# Altium integrated library relay.IntLib: 425 symbols (part 1 of 4)
Pins are listed as number, name and electrical type; pins without a type are passive.

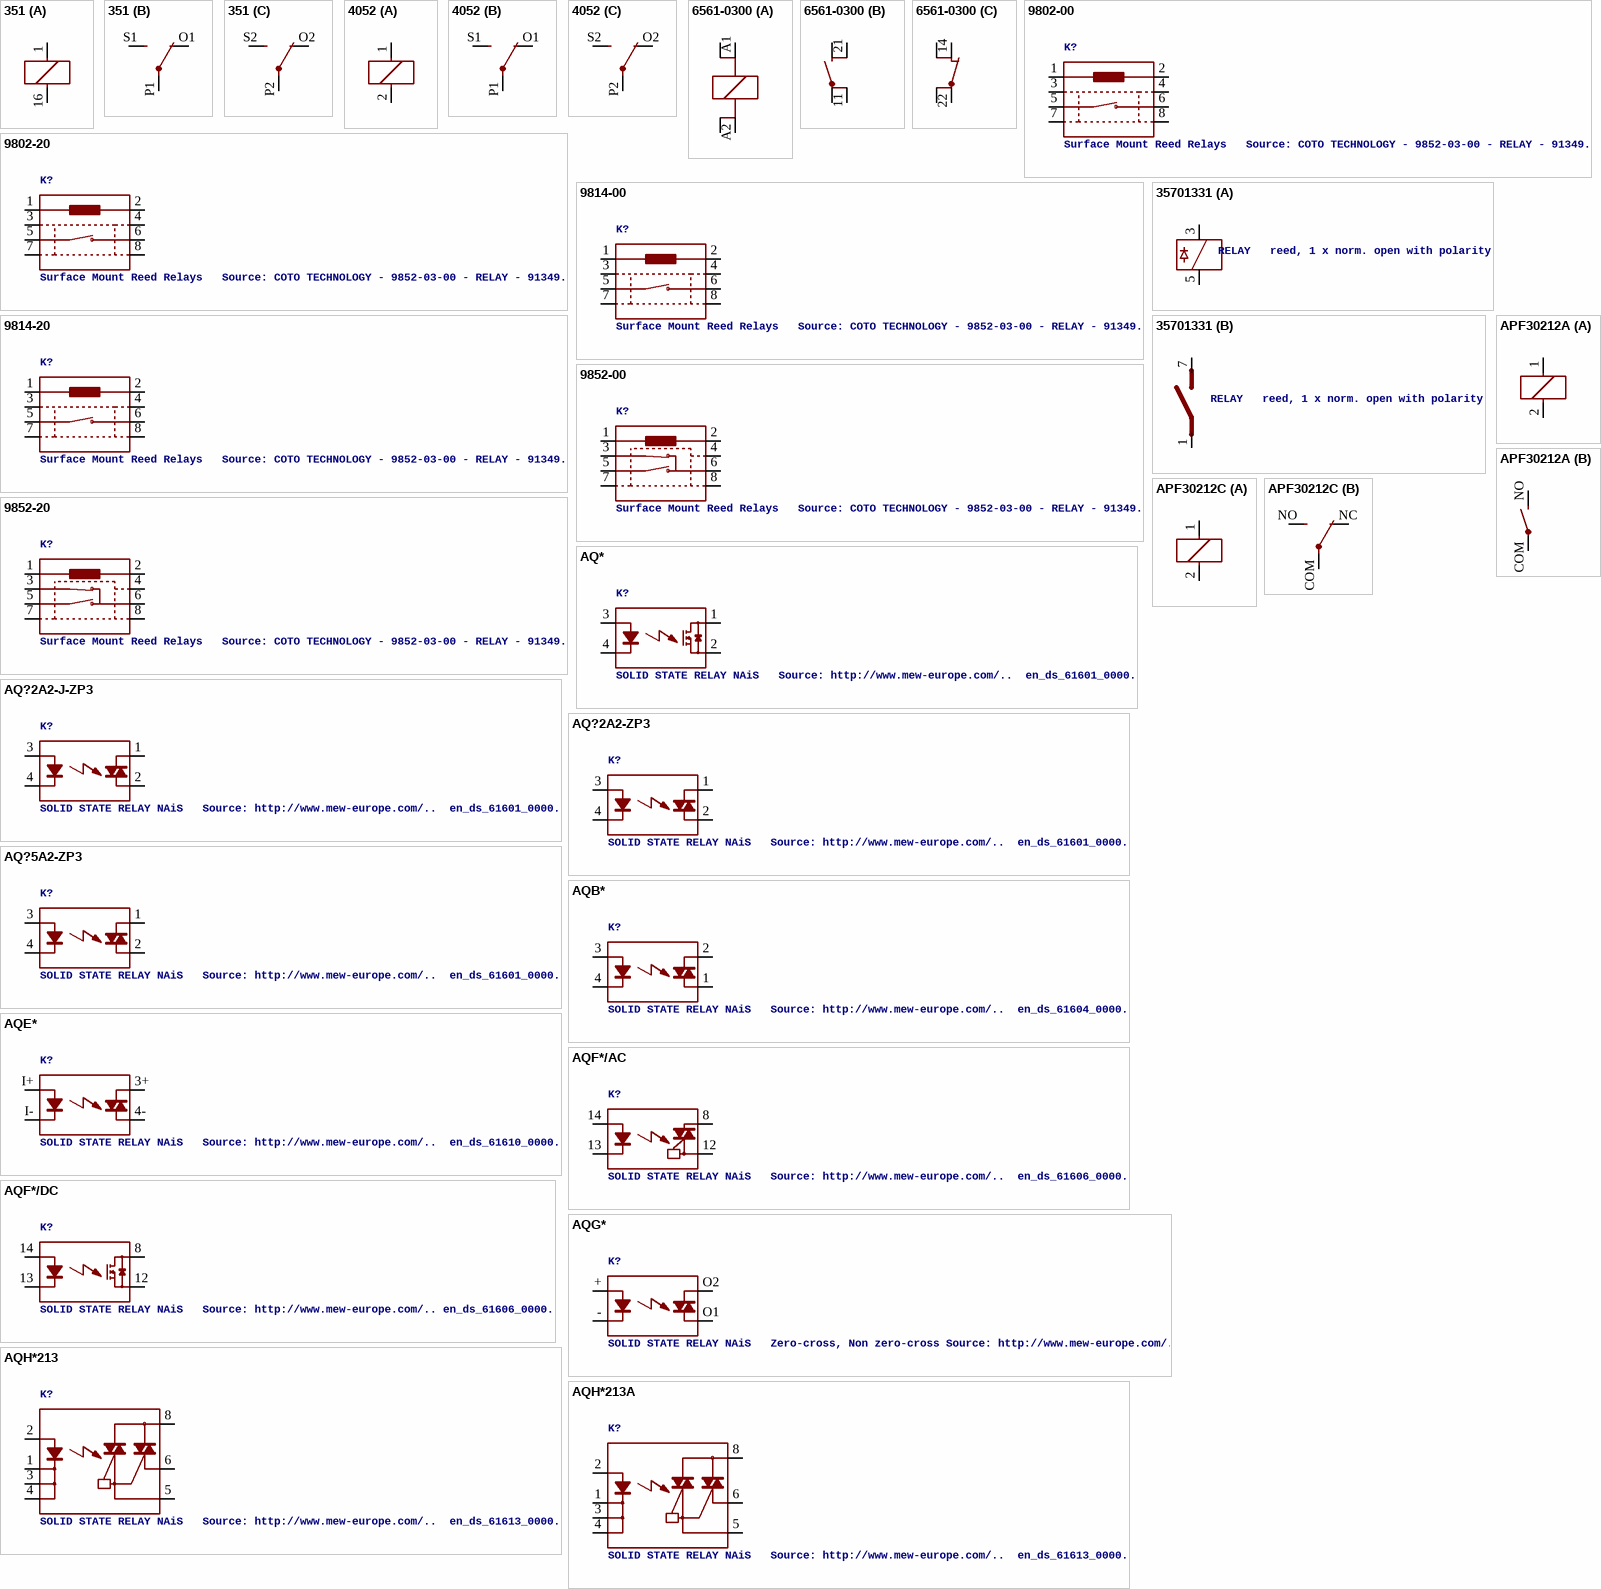
[diagram p0: symbols 351 to AQH*213A]

## 351
designator K?, comment RELAY   2 x switch, Omron  (value not drawn)
OC_FARNELL: unknown; OC_NEWARK: unknown
footprint 351
part A pins: 1, 16 2
part B pins: O1 O, P1 P, S1 S
part C pins: O2 O, P2 P, S2 S

## 4052
designator K?, comment RELAY   2 x switch, Finder  (value not drawn)
OC_FARNELL: unknown; OC_NEWARK: unknown
footprint F4052
part A pins: 1, 2
part B pins: O1 O, P1 P, S1 S
part C pins: O2 O, P2 P, S2 S

## 6561-0300
designator K?, comment 20 / 30 A-Leistungsrelais   Source: http://www.finder.de/comuni/pdf/S65DE.pdf  (value not drawn)
OC_FARNELL: unknown; OC_NEWARK: unknown
footprint 6561-0300
part A pins: A1 1_, A1_ 1, A2 2_, A2_ 2
part B pins: 11 P_, 11_ P, 21 S_, 21_ S
part C pins: 14 O, 14_ O_, 22 P, 22_ P_

## 9802-00
designator K?, comment Surface Mount Reed Relays   Source: COTO TECHNOLOGY - 9852-03-00 - RELAY - 91349.pdf
OC_FARNELL: unknown; OC_NEWARK: unknown; MF: COTO TECHNOLOGY; MPN: 9802-05-00; OC_FARNELL: 1081689; OC_NEWARK: 16F3689
footprint 9802-00
pins: 1, 2, 3, 4, 5, 6, 7, 8

## 9802-20
designator K?, comment Surface Mount Reed Relays   Source: COTO TECHNOLOGY - 9852-03-00 - RELAY - 91349.pdf
OC_FARNELL: unknown; OC_NEWARK: unknown; MF: COTO TECHNOLOGY; MPN: 9802-05-20; OC_FARNELL: 1081633; OC_NEWARK: 92F3367
footprint 9802-20
pins: 1, 2, 3, 4, 5, 6, 7, 8

## 9814-00
designator K?, comment Surface Mount Reed Relays   Source: COTO TECHNOLOGY - 9852-03-00 - RELAY - 91349.pdf
MF: COTO TECHNOLOGY; MPN: 9814-03-00; OC_FARNELL: unknown; OC_NEWARK: 29H2537; MPN: 9814-05-00; OC_FARNELL: 1081691; OC_NEWARK: 29H2538
footprint 9814-00
pins: 1, 2, 3, 4, 5, 6, 7, 8

## 9814-20
designator K?, comment Surface Mount Reed Relays   Source: COTO TECHNOLOGY - 9852-03-00 - RELAY - 91349.pdf
MF: COTO TECHNOLOGY; MPN: 9814-03-20; OC_FARNELL: unknown; OC_NEWARK: 83H2026; MPN: 9814-05-20; OC_NEWARK: 83H2028
footprint 9814-20
pins: 1, 2, 3, 4, 5, 6, 7, 8

## 9852-00
designator K?, comment Surface Mount Reed Relays   Source: COTO TECHNOLOGY - 9852-03-00 - RELAY - 91349.pdf
MF: COTO TECHNOLOGY; MPN: 9852-03-00; OC_FARNELL: 1081692; OC_NEWARK: 29H2540; MPN: 9852-05-00; OC_FARNELL: 1081693; OC_NEWARK: 84C8955
footprint 9852-00
pins: 1, 2, 3, 4, 5, 6, 7, 8

## 9852-20
designator K?, comment Surface Mount Reed Relays   Source: COTO TECHNOLOGY - 9852-03-00 - RELAY - 91349.pdf
MF: COTO TECHNOLOGY; MPN: 9852-03-20; OC_FARNELL: unknown; OC_NEWARK: 83H2030; MPN: 9852-05-20; OC_FARNELL: 1081642; OC_NEWARK: 46M4523
footprint 9852-20
pins: 1, 2, 3, 4, 5, 6, 7, 8

## 35701331
designator K?, comment RELAY   reed, 1 x norm. open with polarity
OC_FARNELL: unknown; OC_NEWARK: unknown
footprint REED
part A pins: 3, 5
part B pins: 1 P, 7 S

## APF30212A
designator K?, comment Compliant with European standards 1a/1c 6A Slim power relays   Source: Data sheet  (value not drawn)
OC_FARNELL: unknown
footprint APF30212A
part A pins: 1, 2
part B pins: COM P, NO S

## APF30212C
designator K?, comment Compliant with European standards 1a/1c 6A Slim power relays   Source: Data sheet  (value not drawn)
OC_FARNELL: unknown
footprint APF30212C
part A pins: 1, 2
part B pins: COM P, NC O, NO S

## AQ*
designator K?, comment SOLID STATE RELAY NAiS   Source: http://www.mew-europe.com/..  en_ds_61601_0000.pdf
MPN: AQ1AD2-3/28VDC; MPN: AQ2AD1-3/28VDC; MF: AROMAT/ MATSUSHITA; OC_FARNELL: unknown; OC_NEWARK: 10C4052; OC_NEWARK: 13P1229
footprint AQ1
pins: 1 DS1, 2 DS2, 3 A, 4 K

## AQ?2A2-J-ZP3
designator K?, comment SOLID STATE RELAY NAiS   Source: http://www.mew-europe.com/..  en_ds_61601_0000.pdf
MPN: AQ2A2-ZP3/28VDC; OC_FARNELL: 1163552; OC_NEWARK: 13P1232
footprint AQ1-FLAT
pins: 1 DS1, 2 DS2, 3 A, 4 K

## AQ?2A2-ZP3
designator K?, comment SOLID STATE RELAY NAiS   Source: http://www.mew-europe.com/..  en_ds_61601_0000.pdf
MPN: AQ2A2-ZP3/28VDC; OC_FARNELL: 1163552; OC_NEWARK: 13P1232
footprint AQ1
pins: 1 DS1, 2 DS2, 3 A, 4 K

## AQ?5A2-ZP3
designator K?, comment SOLID STATE RELAY NAiS   Source: http://www.mew-europe.com/..  en_ds_61601_0000.pdf
MPN: AQ5A2-ZP3/28VDC; OC_FARNELL: unknown; OC_NEWARK: 13P1233
footprint AQ1-M
pins: 1 DS1, 2 DS2, 3 A, 4 K

## AQB*
designator K?, comment SOLID STATE RELAY NAiS   Source: http://www.mew-europe.com/..  en_ds_61604_0000.pdf
OC_FARNELL: unknown; OC_NEWARK: unknown
footprint AQ-B
pins: 1 DS2, 2 DS1, 3 A, 4 K

## AQE*
designator K?, comment SOLID STATE RELAY NAiS   Source: http://www.mew-europe.com/..  en_ds_61610_0000.pdf
OC_FARNELL: unknown; OC_NEWARK: unknown
footprint AQE
pins: 3+ DS1, 4- DS2, I+ A, I- K

## AQF*/AC
designator K?, comment SOLID STATE RELAY NAiS   Source: http://www.mew-europe.com/..  en_ds_61606_0000.pdf
OC_FARNELL: unknown; OC_NEWARK: unknown
footprint HC2-PS-K
pins: 8 DS1, 12 DS2, 13 K, 14 A

## AQF*/DC
designator K?, comment SOLID STATE RELAY NAiS   Source: http://www.mew-europe.com/.. en_ds_61606_0000.pdf
OC_FARNELL: unknown; OC_NEWARK: unknown
footprint HC2-PS-K
pins: 8 DS1, 12 DS2, 13 K, 14 A

## AQG*
designator K?, comment SOLID STATE RELAY NAiS   Zero-cross, Non zero-cross Source: http://www.mew-europe.com/.. en_ds_61611_0000.pdf
MPN: AQG12105; MPN: AQG12112; MPN: AQG12124; MPN: AQG12205; MPN: AQG12212; MPN: AQG12224; MPN: AQG22105; MPN: AQG22124; MPN: AQG22205; MPN: AQG22212; MPN: AQG22224; MF: AROMAT/ MATSUSHITA; OC_FARNELL: unknown; OC_NEWARK: 20J4759; OC_NEWARK: 11N2581; OC_NEWARK: 11J1737; OC_NEWARK: 11N2582; OC_NEWARK: 11N2583; OC_NEWARK: 11N2584; OC_NEWARK: 13P0946; OC_NEWARK: unknown; OC_NEWARK: 11N2586; OC_NEWARK: 11N2587; OC_NEWARK: 11N2588; OC_NEWARK: 11N2589
footprint AQG
pins: + A, - K, O1 DS2, O2 DS1

## AQH*213
designator K?, comment SOLID STATE RELAY NAiS   Source: http://www.mew-europe.com/..  en_ds_61613_0000.pdf
OC_FARNELL: unknown; OC_NEWARK: unknown
footprint DIL07
pins: 1 K, 2 A, 3 K1, 4 K2, 5 DS2, 6 DS3, 8 DS1

## AQH*213A
designator K?, comment SOLID STATE RELAY NAiS   Source: http://www.mew-europe.com/..  en_ds_61613_0000.pdf
OC_FARNELL: unknown; OC_NEWARK: unknown
footprint DIL07SMD
pins: 1 K, 2 A, 3 K1, 4 K2, 5 DS2, 6 DS3, 8 DS1

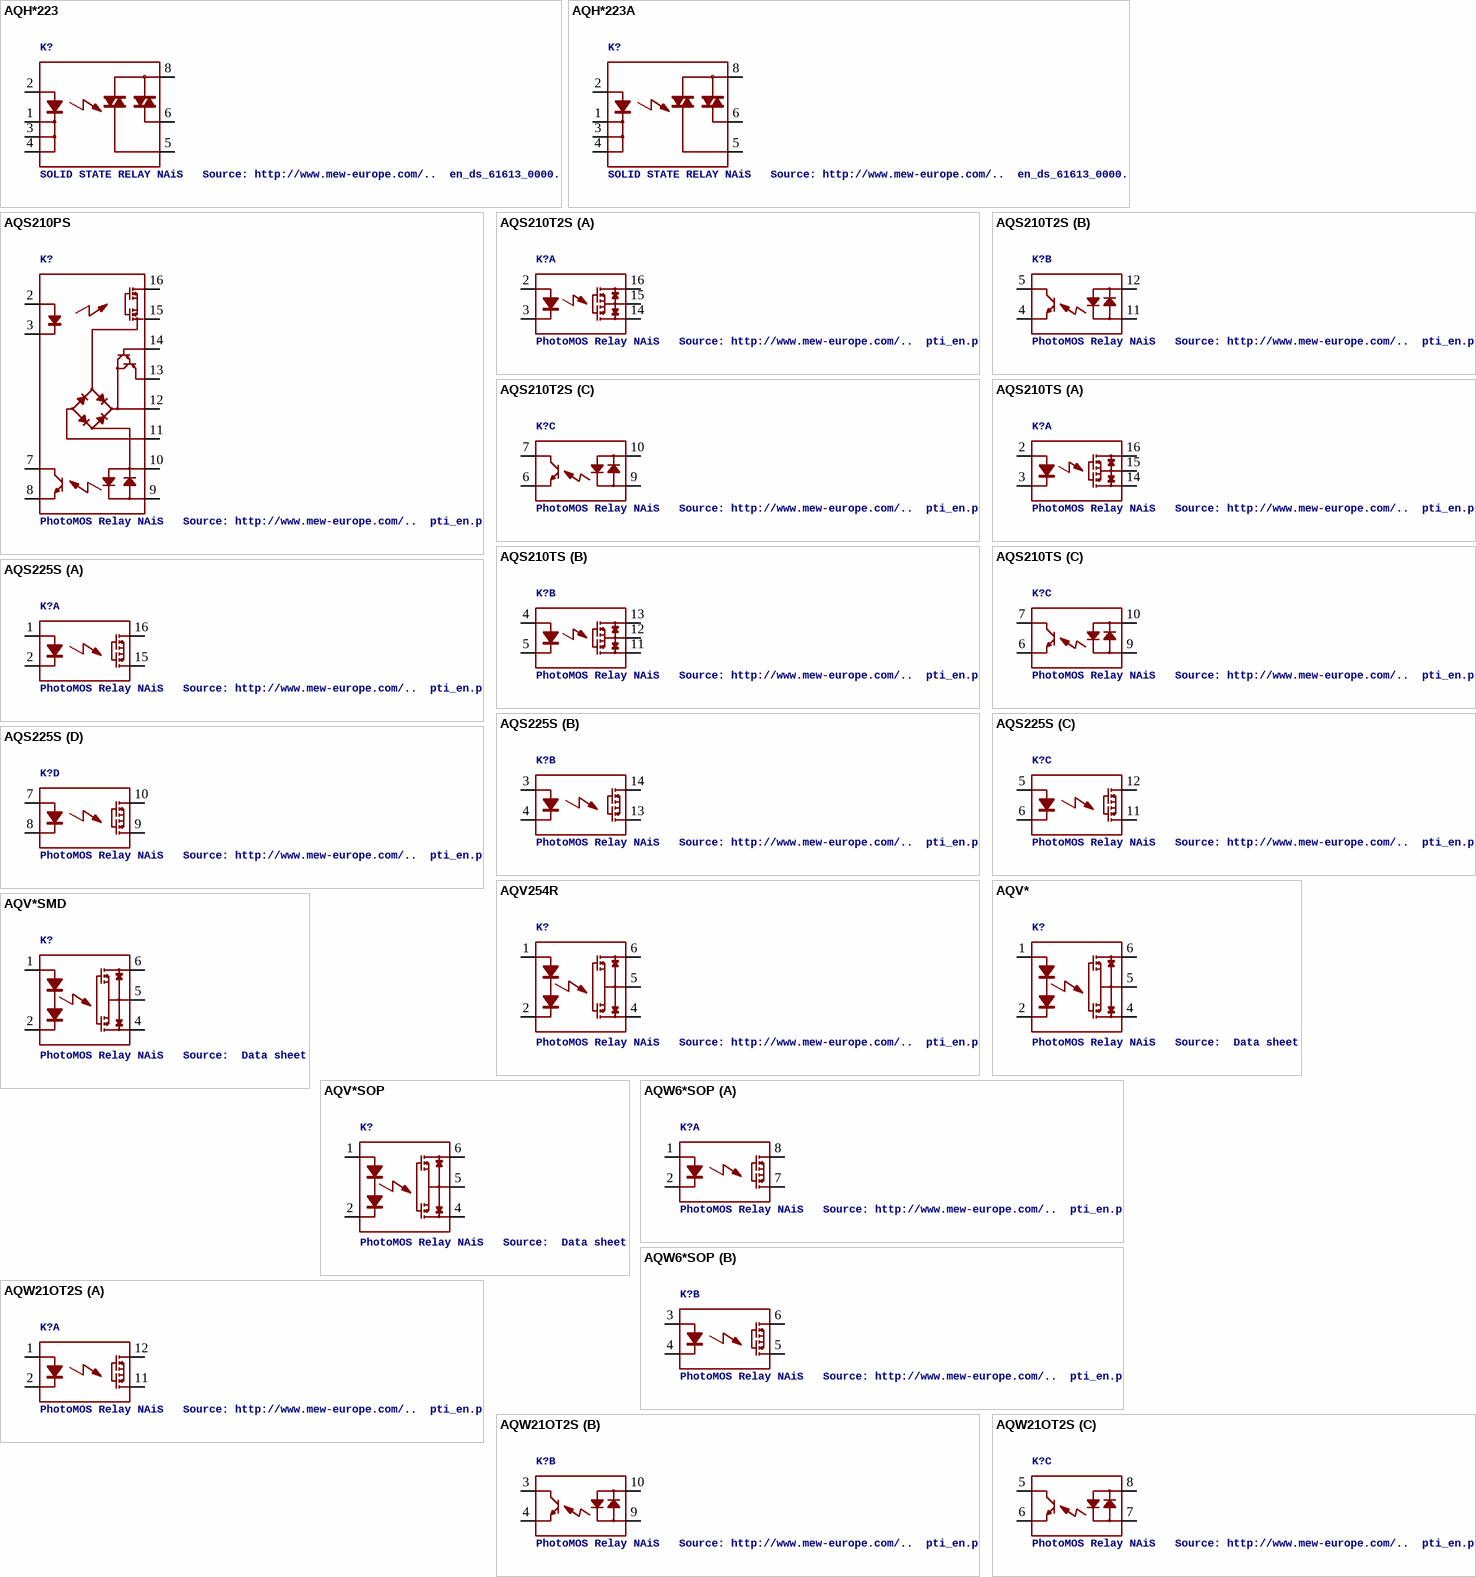
[diagram p1: symbols AQH*223 to AQW21OT2S]

## AQH*223
designator K?, comment SOLID STATE RELAY NAiS   Source: http://www.mew-europe.com/..  en_ds_61613_0000.pdf
MPN: AQH1223; MPN: AQH2223; MF: AROMAT/ MATSUSHITA; OC_FARNELL: unknown; OC_NEWARK: 54K4251; OC_NEWARK: 26K3059
footprint DIL07
pins: 1 K, 2 A, 3 K1, 4 K2, 5 DS2, 6 DS3, 8 DS1

## AQH*223A
designator K?, comment SOLID STATE RELAY NAiS   Source: http://www.mew-europe.com/..  en_ds_61613_0000.pdf
MPN: AQH1223A; MPN: AQH2223A; MF: AROMAT/ MATSUSHITA; OC_FARNELL: unknown; OC_NEWARK: 11N2601; OC_NEWARK: 26K3060
footprint DIL07SMD
pins: 1 K, 2 A, 3 K1, 4 K2, 5 DS2, 6 DS3, 8 DS1

## AQS210PS
designator K?, comment PhotoMOS Relay NAiS   Source: http://www.mew-europe.com/..  pti_en.pdf
OC_FARNELL: unknown; OC_NEWARK: unknown
footprint SOP16
pins: 2, 3, 7, 8, 9, 10, 11, 12, 13, 14, 15, 16

## AQS210T2S
designator K?, comment PhotoMOS Relay NAiS   Source: http://www.mew-europe.com/..  pti_en.pdf
OC_FARNELL: unknown; OC_NEWARK: unknown
footprint SOP16
part A pins: 2 A, 3 K, 14 D2, 15 S, 16 D1
part B pins: 4 E, 5 K, 11 AC2, 12 AC1
part C pins: 6 E, 7 K, 9 AC2, 10 AC1

## AQS210TS
designator K?, comment PhotoMOS Relay NAiS   Source: http://www.mew-europe.com/..  pti_en.pdf
OC_FARNELL: unknown; OC_NEWARK: unknown
footprint SOP16
part A pins: 2 A, 3 K, 14 D2, 15 S, 16 D1
part B pins: 4 A, 5 K, 11 D2, 12 S, 13 D1
part C pins: 6 E, 7 K, 9 AC2, 10 AC1

## AQS225S
designator K?, comment PhotoMOS Relay NAiS   Source: http://www.mew-europe.com/..  pti_en.pdf
MPN: AQS225S; MF: AROMAT/ MATSUSHITA; OC_FARNELL: 1448339; OC_NEWARK: 10C3715
footprint SOP16
part A pins: 1 A, 2 K, 15 DS2, 16 DS1
part B pins: 3 A, 4 K, 13 DS2, 14 DS1
part C pins: 5 A, 6 K, 11 DS2, 12 DS1
part D pins: 7 A, 8 K, 9 DS2, 10 DS1

## AQV254R
designator K?, comment PhotoMOS Relay NAiS   Source: http://www.mew-europe.com/..  pti_en.pdf
MPN: AQV254; MF: AROMAT/ MATSUSHITA; OC_FARNELL: 1124063; OC_NEWARK: 93F6300
footprint DIL06
pins: 1 A, 2 K, 4 D2, 5 S, 6 D1

## AQV*
designator K?, comment PhotoMOS Relay NAiS   Source:  Data sheet
MPN: AQV102; MPN: AQV201; MPN: AQV210; MPN: AQV234; MF: AROMAT/ MATSUSHITA; OC_FARNELL: 2006029; OC_NEWARK: 94F8718; OC_FARNELL: 1704180; OC_NEWARK: 50F4048; OC_FARNELL: 1704179; OC_NEWARK: 13P0968; OC_FARNELL: 1414197; OC_NEWARK: unknown; OC_FARNELL: unknown; OC_NEWARK: 13P1031
footprint DIL06
pins: 1 A, 2 K, 4 D2, 5 S, 6 D1

## AQV*SMD
designator K?, comment PhotoMOS Relay NAiS   Source:  Data sheet
MPN: AQV210S; MF: AROMAT/ MATSUSHITA; OC_FARNELL: unknown; OC_NEWARK: 95F6433; OC_NEWARK: unknown
footprint DIL06SMD
pins: 1 A, 2 K, 4 D2, 5 S, 6 D1

## AQV*SOP
designator K?, comment PhotoMOS Relay NAiS   Source:  Data sheet
OC_FARNELL: unknown; OC_NEWARK: unknown
footprint SOP06
pins: 1 A, 2 K, 4 D2, 5 S, 6 D1

## AQW6*SOP
designator K?, comment PhotoMOS Relay NAiS   Source: http://www.mew-europe.com/..  pti_en.pdf
OC_FARNELL: unknown; OC_NEWARK: unknown
footprint SOP08
part A pins: 1 A, 2 K, 7 DS2, 8 DS1
part B pins: 3 A, 4 K, 5 DS2, 6 DS1

## AQW21OT2S
designator K?, comment PhotoMOS Relay NAiS   Source: http://www.mew-europe.com/..  pti_en.pdf
OC_FARNELL: unknown; OC_NEWARK: unknown
footprint SOP12
part A pins: 1 A, 2 K, 11 DS2, 12 DS1
part B pins: 3 K, 4 E, 9 AC2, 10 AC1
part C pins: 5 K, 6 E, 7 AC2, 8 AC1

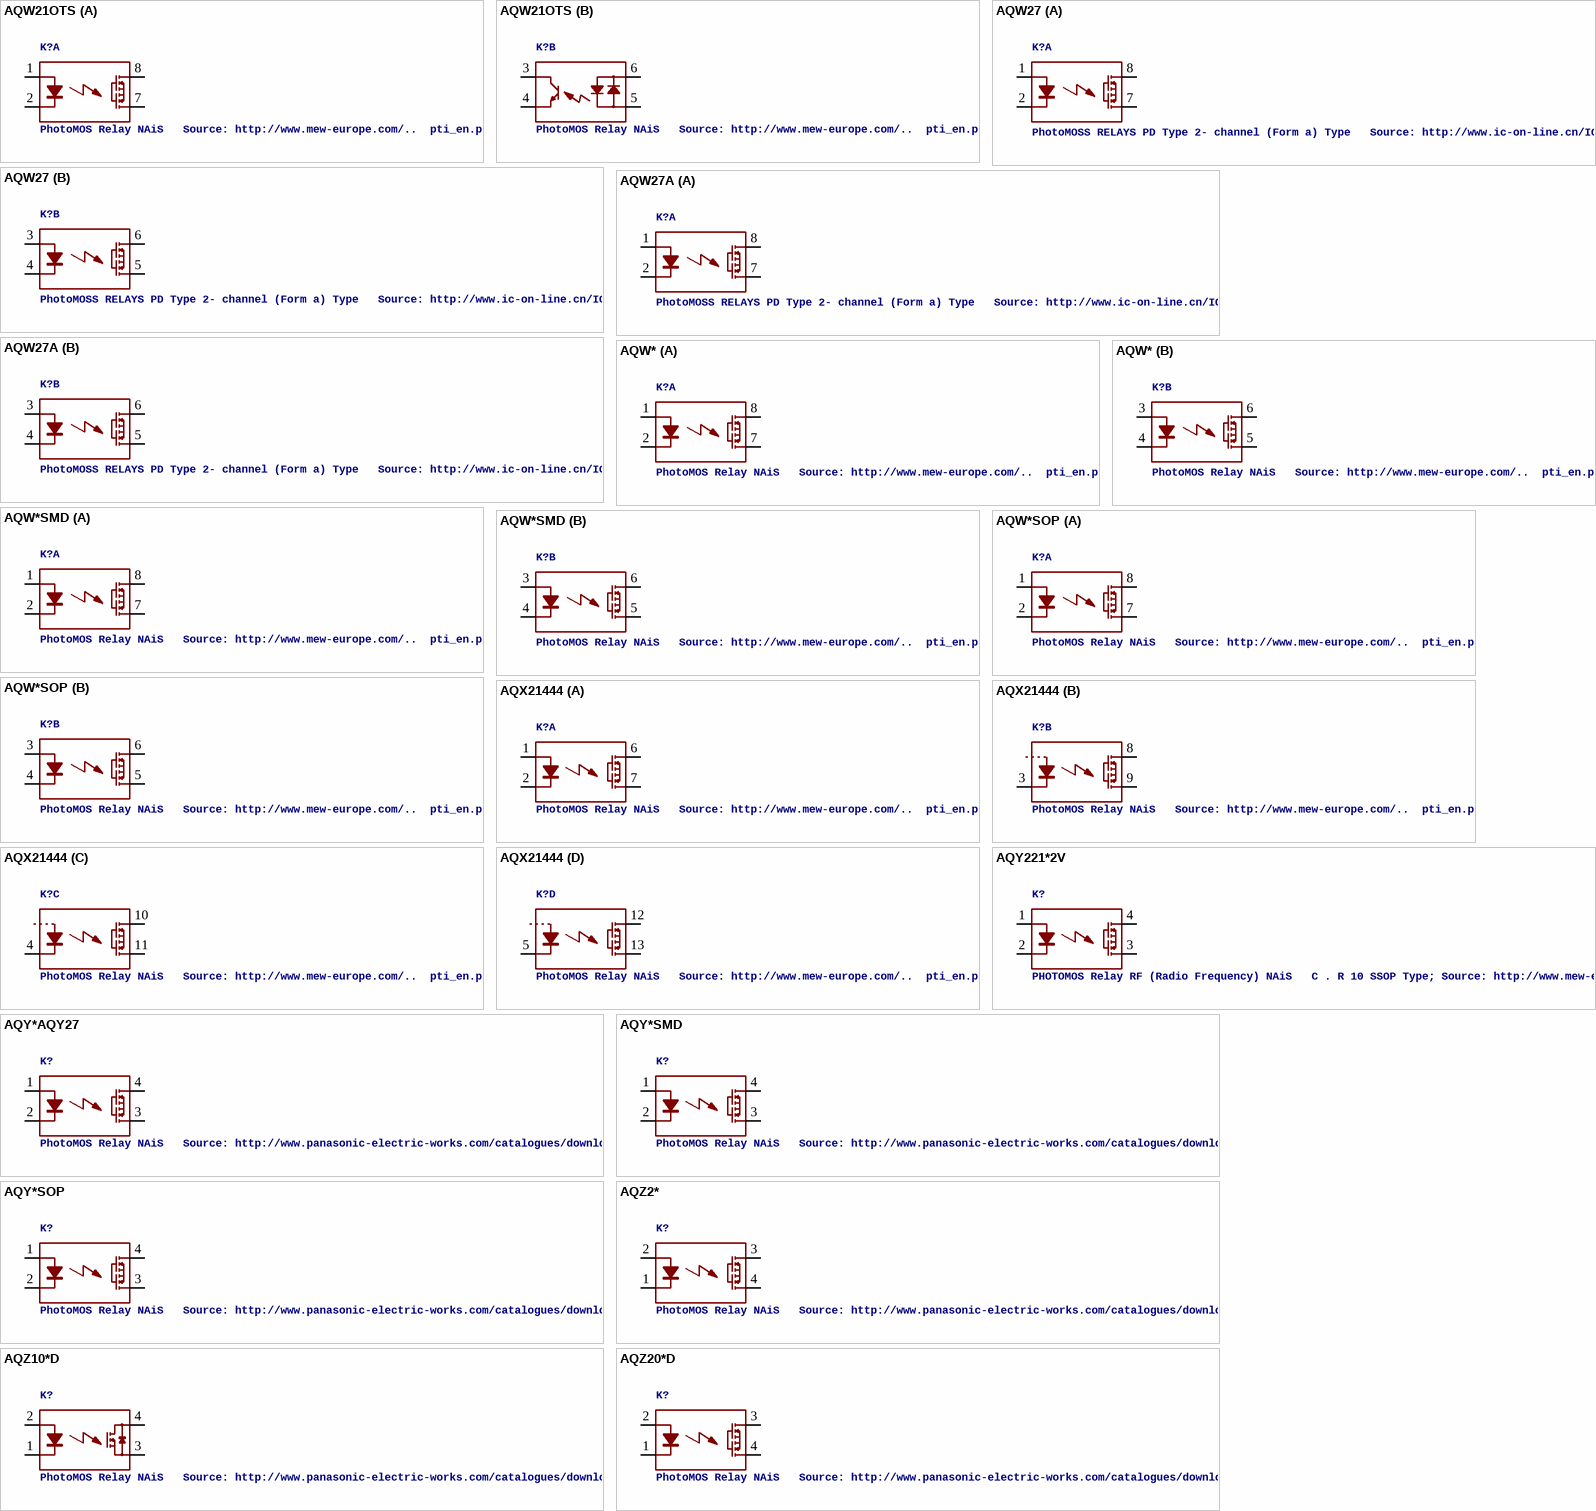
[diagram p2: symbols AQW21OTS to AQZ20*D]

## AQW21OTS
designator K?, comment PhotoMOS Relay NAiS   Source: http://www.mew-europe.com/..  pti_en.pdf
OC_FARNELL: unknown; OC_NEWARK: unknown
footprint SOP08
part A pins: 1 A, 2 K, 7 DS2, 8 DS1
part B pins: 3 K, 4 E, 5 AC2, 6 AC1

## AQW27
designator K?, comment PhotoMOSS RELAYS PD Type 2- channel (Form a) Type   Source: http://www.ic-on-line.cn/IOL/datasheet/aqw277az_1212830.pdf
footprint AQW27-DIL08
part A pins: 1 A, 2 K, 7 D2, 8 D1
part B pins: 3 A, 4 K, 5 D2, 6 D1

## AQW27A
designator K?, comment PhotoMOSS RELAYS PD Type 2- channel (Form a) Type   Source: http://www.ic-on-line.cn/IOL/datasheet/aqw277az_1212830.pdf
footprint AQW27-SMD08
part A pins: 1 A, 2 K, 7 D2, 8 D1
part B pins: 3 A, 4 K, 5 D2, 6 D1

## AQW*
designator K?, comment PhotoMOS Relay NAiS   Source: http://www.mew-europe.com/..  pti_en.pdf
MPN: AQW654; OC_FARNELL: unknown; OC_NEWARK: unknown; OC_NEWARK: 13P1160
footprint DIL08
part A pins: 1 A, 2 K, 7 D2, 8 D1
part B pins: 3 A, 4 K, 5 D2, 6 D1

## AQW*SMD
designator K?, comment PhotoMOS Relay NAiS   Source: http://www.mew-europe.com/..  pti_en.pdf
MPN: AQW654; MF: AROMAT/ MATSUSHITA; OC_FARNELL: unknown; OC_NEWARK: 98B6279
footprint DIL08SMD
part A pins: 1 A, 2 K, 7 D2, 8 D1
part B pins: 3 A, 4 K, 5 D2, 6 D1

## AQW*SOP
designator K?, comment PhotoMOS Relay NAiS   Source: http://www.mew-europe.com/..  pti_en.pdf
OC_FARNELL: unknown; OC_NEWARK: unknown
footprint SOP08
part A pins: 1 A, 2 K, 7 D2, 8 D1
part B pins: 3 A, 4 K, 5 D2, 6 D1

## AQX21444
designator K?, comment PhotoMOS Relay NAiS   Source: http://www.mew-europe.com/..  pti_en.pdf
OC_FARNELL: unknown; OC_NEWARK: unknown
footprint SIL13
part A pins: 1 A, 2 K, 6 DS1, 7 DS2
part B pins: 3 K, 8 DS1, 9 DS2
part C pins: 4 K, 10 DS1, 11 DS2
part D pins: 5 K, 12 DS1, 13 DS2

## AQY221*2V
designator K?, comment PHOTOMOS Relay RF (Radio Frequency) NAiS   C . R 10 SSOP Type; Source: http://www.mew-europe.com/.. aqy221_2v.pdf
MPN: AQY221N2V; MPN: AQY221R2V; MF: AROMAT/ MATSUSHITA; OC_FARNELL: 1448344; OC_NEWARK: 13P1186; OC_FARNELL: 1839014; OC_NEWARK: 94C1062
footprint SSOP4
pins: 1 A, 2 K, 3 DS2, 4 DS1

## AQY*AQY27
designator K?, comment PhotoMOS Relay NAiS   Source: http://www.panasonic-electric-works.com/catalogues/downloads/photomos/ds_x615_en_aqz10_20.pdf
OC_FARNELL: unknown; OC_NEWARK: unknown
footprint AQY27
pins: 1 A, 2 K, 3 DS2, 4 DS1

## AQY*SMD
designator K?, comment PhotoMOS Relay NAiS   Source: http://www.panasonic-electric-works.com/catalogues/downloads/photomos/ds_x615_en_aqz10_20.pdf
OC_FARNELL: unknown; OC_NEWARK: unknown
footprint AQY27-SMD04
pins: 1 A, 2 K, 3 DS2, 4 DS1

## AQY*SOP
designator K?, comment PhotoMOS Relay NAiS   Source: http://www.panasonic-electric-works.com/catalogues/downloads/photomos/ds_x615_en_aqz10_20.pdf
OC_FARNELL: unknown; OC_NEWARK: unknown
footprint SOP04
pins: 1 A, 2 K, 3 DS2, 4 DS1

## AQZ2*
designator K?, comment PhotoMOS Relay NAiS   Source: http://www.panasonic-electric-works.com/catalogues/downloads/photomos/ds_x615_en_aqz10_20.pdf
OC_FARNELL: unknown; OC_NEWARK: unknown
footprint AQZ-SIL04
pins: 1 K, 2 A, 3 DS1, 4 DS2

## AQZ10*D
designator K?, comment PhotoMOS Relay NAiS   Source: http://www.panasonic-electric-works.com/catalogues/downloads/photomos/ds_x615_en_aqz10_20.pdf
MPN: AQZ102D; MPN: AQZ104; MPN: AQZ105; MPN: AQZ107; MF: AROMAT/ MATSUSHITA; OC_FARNELL: 1448345; OC_NEWARK: 10C4038; OC_FARNELL: unknown; OC_NEWARK: 13P1217; OC_NEWARK: 10C4041; OC_NEWARK: 50B844
footprint AQZ-SIL04
pins: 1 K, 2 A, 3 DS2, 4 DS1

## AQZ20*D
designator K?, comment PhotoMOS Relay NAiS   Source: http://www.panasonic-electric-works.com/catalogues/downloads/photomos/ds_x615_en_aqz10_20.pdf
MPN: AQZ202D; MPN: AQZ204D; MPN: AQZ205D; MPN: AQZ207; MF: AROMAT/ MATSUSHITA; OC_FARNELL: 2053925; OC_NEWARK: 10C4043; OC_FARNELL: unknown; OC_NEWARK: 10C4045; OC_FARNELL: 1175736; OC_NEWARK: 10C4047; OC_FARNELL: 1129299; OC_NEWARK: 64K3058
footprint AQZ-SIL04
pins: 1 K, 2 A, 3 DS1, 4 DS2

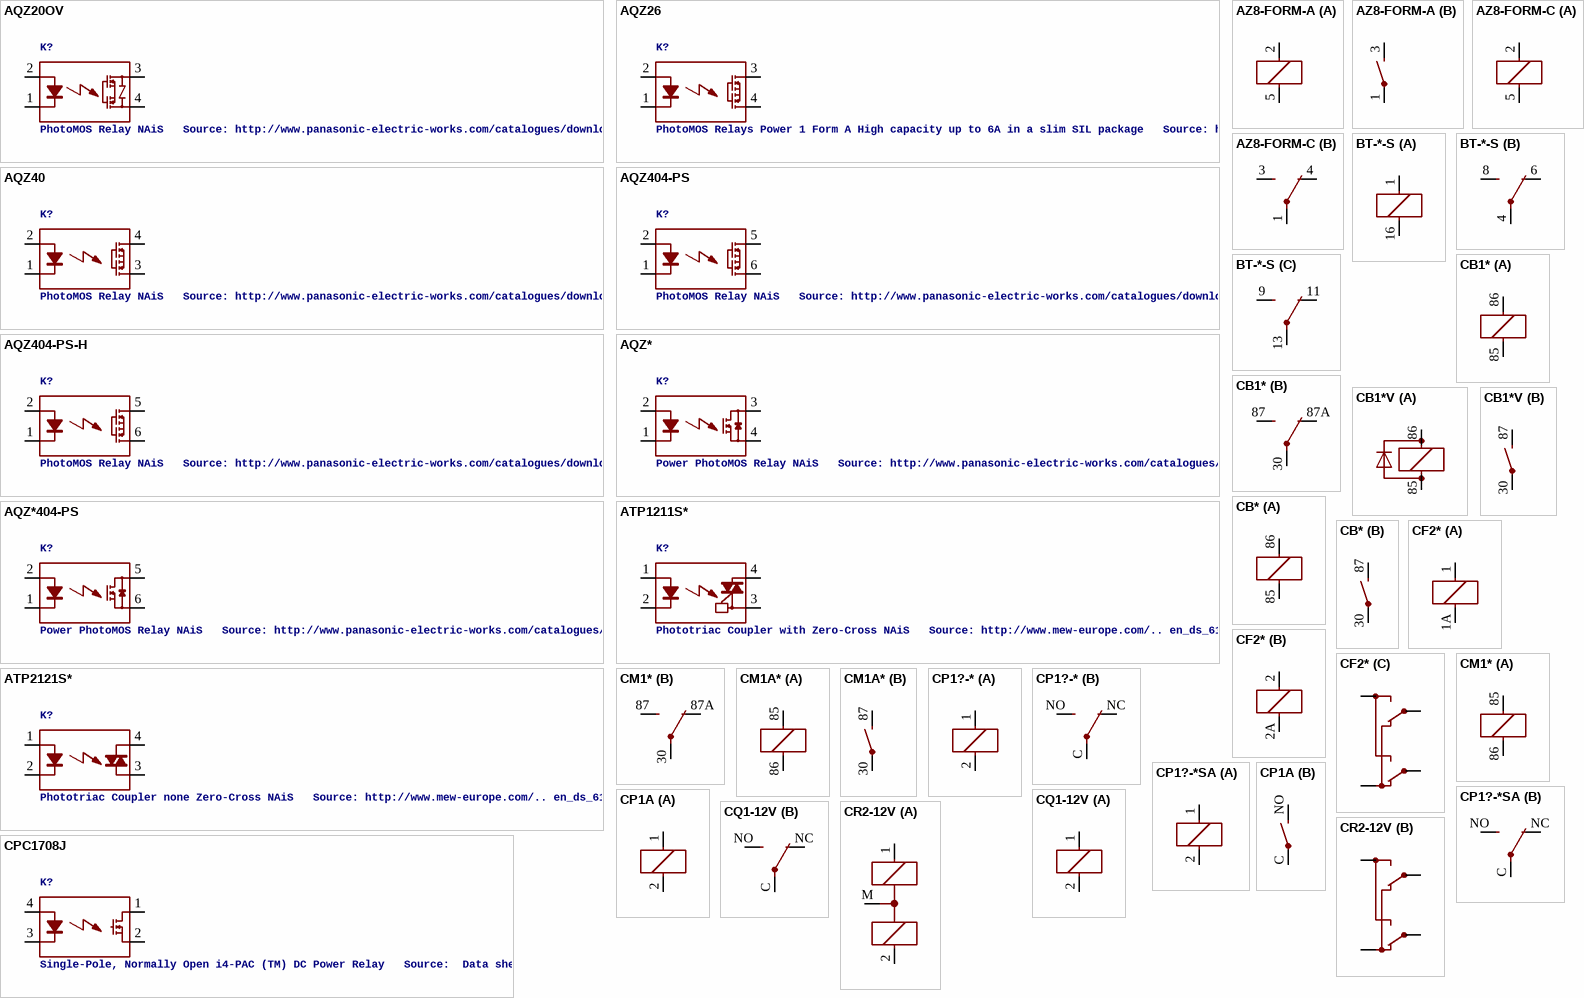
[diagram p3: symbols AQZ20OV to CR2-12V]

## AQZ20OV
designator K?, comment PhotoMOS Relay NAiS   Source: http://www.panasonic-electric-works.com/catalogues/downloads/photomos/ds_x615_en_aqz10_20.pdf
OC_FARNELL: unknown; OC_NEWARK: unknown
footprint AQZ-SIL04
pins: 1 K, 2 A, 3 DS1, 4 DS2

## AQZ26
designator K?, comment PhotoMOS Relays Power 1 Form A High capacity up to 6A in a slim SIL package   Source: http://www.panasonic-electric-works.com/catalogues/downloads/photomos/ds_x615_en_aqz262_264.pdf
footprint AQZ26-SIL04
pins: 1 K, 2 A, 3 DS1, 4 DS2

## AQZ40
designator K?, comment PhotoMOS Relay NAiS   Source: http://www.panasonic-electric-works.com/catalogues/downloads/photomos/ds_x615_en_aqz10_20.pdf
OC_FARNELL: unknown; OC_NEWARK: unknown
footprint AQZ-SIL04
pins: 1 K, 2 A, 3 DS2, 4 DS1

## AQZ404-PS
designator K?, comment PhotoMOS Relay NAiS   Source: http://www.panasonic-electric-works.com/catalogues/downloads/photomos/ds_x615_en_aqz10_20.pdf
MPN: AQZ404; OC_FARNELL: 1101853; OC_NEWARK: 13P1226
footprint AQZ404-PS
pins: 1 K, 2 A, 5 DS1, 6 DS2

## AQZ404-PS-H
designator K?, comment PhotoMOS Relay NAiS   Source: http://www.panasonic-electric-works.com/catalogues/downloads/photomos/ds_x615_en_aqz10_20.pdf
MPN: AQZ404; OC_FARNELL: 1101853; OC_NEWARK: 13P1226
footprint AQZ404-PS-H
pins: 1 K, 2 A, 5 DS1, 6 DS2

## AQZ*
designator K?, comment Power PhotoMOS Relay NAiS   Source: http://www.panasonic-electric-works.com/catalogues/downloads/photomos/ds_x615_en_aqz10_20.pdf
MPN: AQZ102; MPN: AQZ104; MPN: AQZ105; MPN: AQZ107; MPN: AQZ202; MPN: AQZ204; MPN: AQZ205; MPN: AQZ207; MF: AROMAT/ MATSUSHITA; OC_FARNELL: 1448345; OC_NEWARK: 52F5584; OC_FARNELL: unknown; OC_NEWARK: 13P1217; OC_NEWARK: 13P1218; OC_NEWARK: 50B844; OC_FARNELL: 1175735; OC_NEWARK: 13P1220; OC_NEWARK: 13P1222; OC_FARNELL: 1175736; OC_NEWARK: 13P1223; OC_FARNELL: 1129299; OC_NEWARK: 64K3058
footprint AQZ-SIL04
pins: 1 K, 2 A, 3 DS1, 4 DS2

## AQZ*404-PS
designator K?, comment Power PhotoMOS Relay NAiS   Source: http://www.panasonic-electric-works.com/catalogues/downloads/photomos/ds_x615_en_aqz10_20.pdf
MPN: AQZ404; OC_FARNELL: 1101853; OC_NEWARK: 13P1226
footprint AQZ404-PS
pins: 1 K, 2 A, 5 DS1, 6 DS2

## ATP1211S*
designator K?, comment Phototriac Coupler with Zero-Cross NAiS   Source: http://www.mew-europe.com/.. en_ds_61690_0000.pdf
OC_FARNELL: unknown; OC_NEWARK: unknown
footprint SOP04
pins: 1 A, 2 K, 3 DS2, 4 DS1

## ATP2121S*
designator K?, comment Phototriac Coupler none Zero-Cross NAiS   Source: http://www.mew-europe.com/.. en_ds_61690_0000.pdf
OC_FARNELL: unknown; OC_NEWARK: unknown
footprint SOP04
pins: 1 A, 2 K, 3 DS2, 4 DS1

## AZ8-FORM-A
designator K?, comment MINIATURE PC BOARD RELAY Form A   Source: www.azettler.com .. AZ8-1ch-12DSE.PDF  (value not drawn)
OC_FARNELL: unknown; OC_NEWARK: unknown
footprint AZ8
part A pins: 2 1, 5 2
part B pins: 1 P, 3 S

## AZ8-FORM-C
designator K?, comment MINIATURE PC BOARD RELAY Form C   Source: www.azettler.com .. AZ8-1ch-12DSE.PDF  (value not drawn)
OC_FARNELL: unknown; OC_NEWARK: unknown
footprint AZ8
part A pins: 2 1, 5 2
part B pins: 1 P, 3 S, 4 O

## BT-*-S
designator K?, comment KLEIN RELAIS WASCHDICHT 2 Wechsler   Distriibutor: Conrad Electronic, Bestell Nr.: 505226-13 - 24V 505226-13 - 5V 505170-13 - 12V 505170-13 - 48V Bestar Electric Ltd.Source: http://www2.produktinfo.conrad.com/datenblaetter/500000-524999/505226-da-01-en-Kleinrelais_waschdicht_24V.pdf  (value not drawn)
OC_FARNELL: unknown; OC_NEWARK: unknown
footprint BT-XX-S
part A pins: 1, 16 2
part B pins: 4 P, 6 O, 8 S
part C pins: 9 S, 11 O, 13 P

## CB1*
designator K?, comment HIGH POWER AUTOMOTIVE RELAY Form C NAiS   Source: http://www.mew-europe.com/..  en_ds_61202_0000.pdf  (value not drawn)
MPN: CB1-P-12V; MPN: CB1-P-24V; MPN: CB1F-P-12V; MPN: CB1F-P-24V; MF: AROMAT/ MATSUSHITA; OC_FARNELL: unknown; OC_NEWARK: 52F9201; OC_FARNELL: 4168987; OC_NEWARK: 07C0827; OC_FARNELL: 1414069; OC_NEWARK: 50F4024; OC_FARNELL: 1423191; OC_NEWARK: 94B6706
footprint CB1
part A pins: 85 2, 86 1
part B pins: 30 P, 87 S, 87A O

## CB1*V
designator K?, comment HIGH POWER AUTOMOTIVE RELAY Form A with Diode NAiS   Source: http://www.mew-europe.com/..  en_ds_61202_0000.pdf  (value not drawn)
MPN: CB1-D-P-12V; MPN: CB1-D-P-24V; MPN: CB1A-D-P-12V; MF: AROMAT/ MATSUSHITA; OC_FARNELL: unknown; OC_NEWARK: 10C5390; OC_NEWARK: 10C5392; OC_NEWARK: 13P2827; OC_NEWARK: unknown
footprint CB1
part A pins: 85 -, 86 +
part B pins: 30 P, 87 S

## CB*
designator K?, comment HIGH POWER AUTOMOTIVE RELAY Form A NAiS   Source: http://www.mew-europe.com/..  en_ds_61202_0000.pdf  (value not drawn)
MPN: CB1A-P-12V; MPN: CB1A-P-24V; MPN: CB1A-T-P-12V; MF: AROMAT/ MATSUSHITA; OC_FARNELL: 1270582; OC_NEWARK: 50B849; OC_FARNELL: unknown; OC_NEWARK: 13P2833; OC_NEWARK: 26H6273; OC_NEWARK: unknown
footprint CB1
part A pins: 85 2, 86 1
part B pins: 30 P, 87 S

## CF2*
designator K?, comment NEW DUAL POWER AUTOMOTIVE RELAY NAiS   Source: http://www.mew-europe.com/..  en_ds_61203_0000.pdf  (value not drawn)
OC_FARNELL: unknown; OC_NEWARK: unknown
footprint CF
part A pins: 1, 1A 2
part B pins: 2 1, 2A 2
part C pins: C1 COM1, C2 COM2, NC, NO

## CM1*
designator K?, comment AUTOMOTIVE MICRO-ISO RELAY NAiS   en_ds_61204_0000.pdf  (value not drawn)
MPN: CM1-P-12V; MPN: CM1F-P-12V; MF: AROMAT/ MATSUSHITA; OC_FARNELL: unknown; OC_NEWARK: 50B850; OC_NEWARK: unknown; OC_NEWARK: 10C5503
footprint CM
part A pins: 85 1, 86 2
part B pins: 30 P, 87 S, 87A O

## CM1A*
designator K?, comment AUTOMOTIVE MICRO-ISO RELAY NAiS   en_ds_61204_0000.pdf  (value not drawn)
MPN: CM1A-P-12V; MPN: CM1AF-P-12V; MF: AROMAT/ MATSUSHITA; OC_FARNELL: unknown; OC_NEWARK: 10C5491; OC_NEWARK: unknown; OC_NEWARK: 10C5497
footprint CM
part A pins: 85 1, 86 2
part B pins: 30 P, 87 S

## CP1?-*
designator K?, comment ULTRA-MINIATURE LOW PROFILE AUTOMOTIVE RELAY NAiS   Source: http://www.mew-europe.com/.. en_ds_61207_0000.pdf  (value not drawn)
MPN: CP1-12V; MF: AROMAT/ MATSUSHITA; OC_FARNELL: unknown; OC_NEWARK: 10C5508
footprint CP1
part A pins: 1, 2
part B pins: C P, NC O, NO S

## CP1?-*SA
designator K?, comment ULTRA-MINIATURE LOW PROFILE AUTOMOTIVE RELAY NAiS   Source: http://www.mew-europe.com/.. en_ds_61207_0000.pdf  (value not drawn)
MPN: CP1SA-12V-X; OC_FARNELL: unknown; OC_NEWARK: 96K2384
footprint CP1SA
part A pins: 1, 2
part B pins: C P, NC O, NO S

## CP1A
designator K?, comment ULTRA-MINIATURE LOW PROFILE AUTOMOTIVE RELAY NAiS   Source: http://www.mew-europe.com/.. en_ds_61207_0000.pdf  (value not drawn)
MPN: CP1A-12V; MF: AROMAT/ MATSUSHITA; OC_FARNELL: 1629083; OC_NEWARK: 10C5509
footprint CP1A
part A pins: 1, 2
part B pins: C P, NO S

## CPC1708J
designator K?, comment Single-Pole, Normally Open i4-PAC (TM) DC Power Relay   Source:  Data sheet
footprint I4-PAC
pins: 1 DS1, 2 DS2, 3 K, 4 A

## CQ1-12V
designator K?, comment AUTOMOTIVE QUIET RELAY NAiS   Source: http://www.mew-europe.com/.. en_ds_61208_0000.pdf  (value not drawn)
OC_FARNELL: unknown; OC_NEWARK: unknown
footprint CQ1
part A pins: 1, 2
part B pins: C P, NC O, NO S

## CR2-12V
designator KI?, comment DUAL POWER QUIET AUTOMOTIVE RELAY NAiS   Source: http://www.mew-europe.com/.. en_ds_61209_0000.pdf  (value not drawn)
MPN: CR2-12V; MF: AROMAT/ MATSUSHITA; OC_FARNELL: unknown; OC_NEWARK: 10C5511
footprint CR2
part A pins: 1, 2, M
part B pins: C1 COM1, C2 COM2, NC, NO

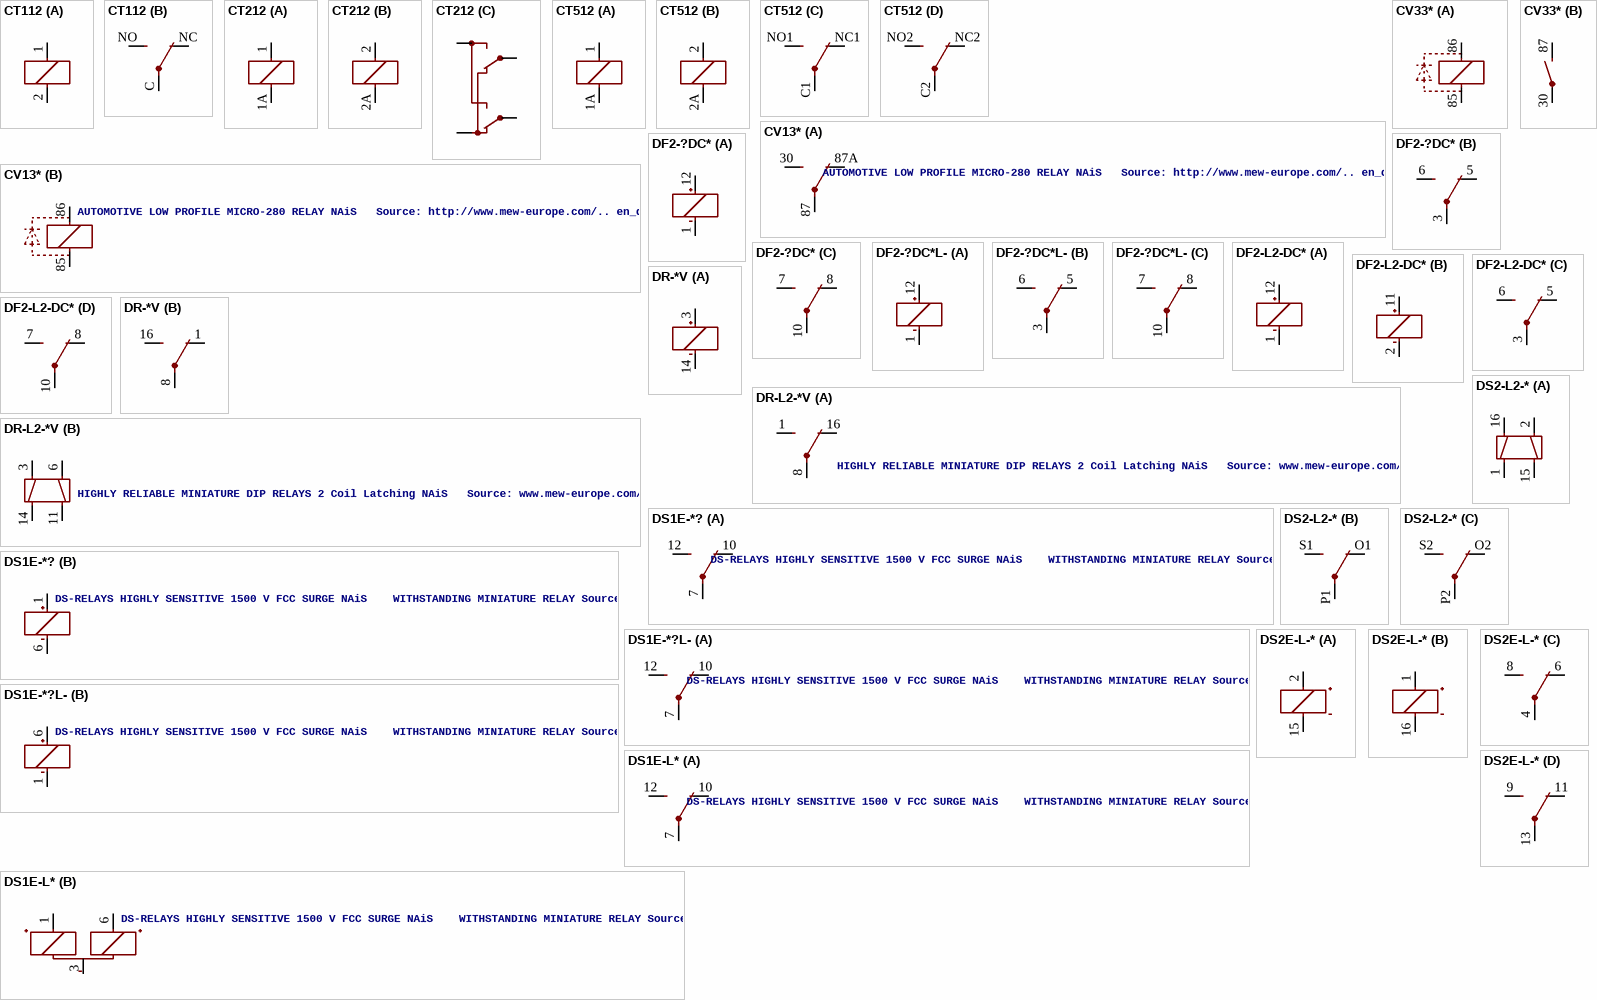
[diagram p4: symbols CT112 to DS2E-L-*]

## CT112
designator K?, comment ULTRA SMALL AUTOMOTIVE RELAY NAiS   Slim 1c type  en_ds_61205_0000.pdf  (value not drawn)
OC_FARNELL: unknown; OC_NEWARK: unknown
footprint CT-SLIM
part A pins: 1, 2
part B pins: C P, NC O, NO S

## CT212
designator K?, comment ULTRA SMALL AUTOMOTIVE RELAY NAiS   Twin type (8 terminals) en_ds_61205_0000.pdf  (value not drawn)
OC_FARNELL: unknown; OC_NEWARK: unknown
footprint CT-TWIN
part A pins: 1, 1A 2
part B pins: 2 1, 2A 2
part C pins: C1 COM1, C2 COM2, NC, NO

## CT512
designator K?, comment ULTRA SMALL AUTOMOTIVE RELAY NAiS   Twin type (10 terminals) en_ds_61205_0000.pdf  (value not drawn)
OC_FARNELL: unknown; OC_NEWARK: unknown
footprint CT2-TWIN
part A pins: 1, 1A 2
part B pins: 2 1, 2A 2
part C pins: C1 P, NC1 O, NO1 S
part D pins: C2 P, NC2 O, NO2 S

## CV13*
designator K?, comment AUTOMOTIVE LOW PROFILE MICRO-280 RELAY NAiS   Source: http://www.mew-europe.com/.. en_ds_61214_0000.pdf
MPN: ACV13012; OC_FARNELL: unknown; OC_NEWARK: 39M3504; OC_NEWARK: unknown
footprint CV-MIRO-280
part A pins: 30 S, 87 P, 87A O
part B pins: 85 -, 86 +

## CV33*
designator K?, comment AUTOMOTIVE LOW PROFILE MICRO-280 RELAY NAiS   Source: http://www.mew-europe.com/.. en_ds_61214_0000.pdf  (value not drawn)
MPN: ACV33012; OC_FARNELL: unknown; OC_NEWARK: 39M3505; OC_NEWARK: unknown
footprint CV1A-MICRO-280
part A pins: 85 -, 86 +
part B pins: 30 P, 87 S

## DF2-?DC*
designator K?, comment HIGHLY SENSITIVE DIP MINIATURE RELAY NAiS   Single side stable / 1 coil latching Source: http://www.mew-europe.com/..  en_ds_61002_0000.pdf  (value not drawn)
OC_FARNELL: unknown; OC_NEWARK: unknown
footprint DF2
part A pins: 1 -, 12 +
part B pins: 3 P, 5 O, 6 S
part C pins: 7 S, 8 O, 10 P

## DF2-?DC*L-
designator K?, comment HIGHLY SENSITIVE DIP MINIATURE RELAY NAiS   Single side stable / 1 coil latching Source: http://www.mew-europe.com/..  en_ds_61002_0000.pdf  (value not drawn)
OC_FARNELL: unknown; OC_NEWARK: unknown
footprint DF2
part A pins: 1 -, 12 +
part B pins: 3 P, 5 O, 6 S
part C pins: 7 S, 8 O, 10 P

## DF2-L2-DC*
designator K?, comment HIGHLY SENSITIVE DIP MINIATURE RELAY NAiS   2 coil latching Set/Reset Source: http://www.mew-europe.com/..  en_ds_61002_0000.pdf  (value not drawn)
OC_FARNELL: unknown; OC_NEWARK: unknown
footprint DF2-L2
part A pins: 1 -, 12 +
part B pins: 2 -, 11 +
part C pins: 3 P, 5 O, 6 S
part D pins: 7 S, 8 O, 10 P

## DR-*V
designator K?, comment HIGHLY RELIABLE MINIATURE DIP RELAYS NAiS   Source: www.mew-europe.com/ac/download/ datasheet/relay/dr_en.pdf  (value not drawn)
MPN: DR-12V; MPN: DR-24V; MPN: DR-5V; OC_FARNELL: 1124066; OC_NEWARK: 91K6794; OC_FARNELL: unknown; OC_NEWARK: unknown; OC_FARNELL: 1124068; OC_NEWARK: 21M8932; OC_FARNELL: 1124065; OC_NEWARK: 24M1478
footprint DR-1
part A pins: 3 +, 14 -
part B pins: 1 O, 8 P, 16 S

## DR-L2-*V
designator K?, comment HIGHLY RELIABLE MINIATURE DIP RELAYS 2 Coil Latching NAiS   Source: www.mew-europe.com/ac/download/datasheet/relay/dr_en.pdf
OC_FARNELL: unknown; OC_NEWARK: unknown
footprint DR-2
part A pins: 1 S, 8 P, 16 O
part B pins: 3 1, 6 3, 11 4, 14 2

## DS1E-*?
designator K?, comment DS-RELAYS HIGHLY SENSITIVE 1500 V FCC SURGE NAiS    WITHSTANDING MINIATURE RELAY Source: http://www.mew-europe.com/..  en_ds_61005_0001.pdf
OC_FARNELL: unknown; OC_NEWARK: unknown
footprint DS1E
part A pins: 7 P, 10 O, 12 S
part B pins: 1 +, 6 -

## DS1E-*?L-
designator K?, comment DS-RELAYS HIGHLY SENSITIVE 1500 V FCC SURGE NAiS    WITHSTANDING MINIATURE RELAY Source: http://www.mew-europe.com/..  en_ds_61005_0001.pdf
MPN: DS1E-S-DC12V; MPN: DS1E-S-DC24V; MPN: DS1E-S-DC48V; MPN: DS1E-S-DC9V; OC_FARNELL: unknown; OC_NEWARK: unknown; OC_FARNELL: 1652598; OC_NEWARK: 13P3215; OC_FARNELL: 1372701; OC_NEWARK: 13P3216; OC_NEWARK: 13P3218; OC_FARNELL: 1608323; OC_FARNELL: 1372683; OC_NEWARK: 13P3221
footprint DS1E
part A pins: 7 P, 10 O, 12 S
part B pins: 1 -, 6 +

## DS1E-L*
designator K?, comment DS-RELAYS HIGHLY SENSITIVE 1500 V FCC SURGE NAiS    WITHSTANDING MINIATURE RELAY Source: http://www.mew-europe.com/..  en_ds_61005_0001.pdf
MPN: DS1E-SL-DC12V; MPN: DS1E-SL-DC48V; MPN: DS1E-SL-DC5V; MF: AROMAT/ MATSUSHITA; OC_FARNELL: unknown; OC_NEWARK: unknown; OC_NEWARK: 13P3222; OC_NEWARK: 10C5700; OC_NEWARK: 10C5701
footprint DS1E-L
part A pins: 7 P, 10 O, 12 S
part B pins: 1 S+, 3 -, 6 R+

## DS2-L2-*
designator K?, comment RELAY NAiS    bistable, 2 x switch, 4 A/250 V  (value not drawn)
OC_FARNELL: unknown; OC_NEWARK: unknown
footprint DS2E-L2
part A pins: 1 2, 2 3, 15 4, 16 1
part B pins: O1 O, P1 P, S1 S
part C pins: O2 O, P2 P, S2 S

## DS2E-L-*
designator K?, comment DS-RELAYS HIGHLY SENSITIVE 1500 V FCC SURGE NAiS    WITHSTANDING MINIATURE RELAY Source:  Panasonic data sheet  (value not drawn)
MPN: DS2E-SL-DC24V; MPN: DS2E-SL-DC5V; MF: AROMAT/ MATSUSHITA; OC_FARNELL: unknown; OC_NEWARK: unknown; OC_NEWARK: 10C5812; OC_NEWARK: 10C5815
footprint DS2E-L
part A pins: 2 +, 15 -
part B pins: 1 +, 16 -
part C pins: 4 P, 6 O, 8 S
part D pins: 9 S, 11 O, 13 P

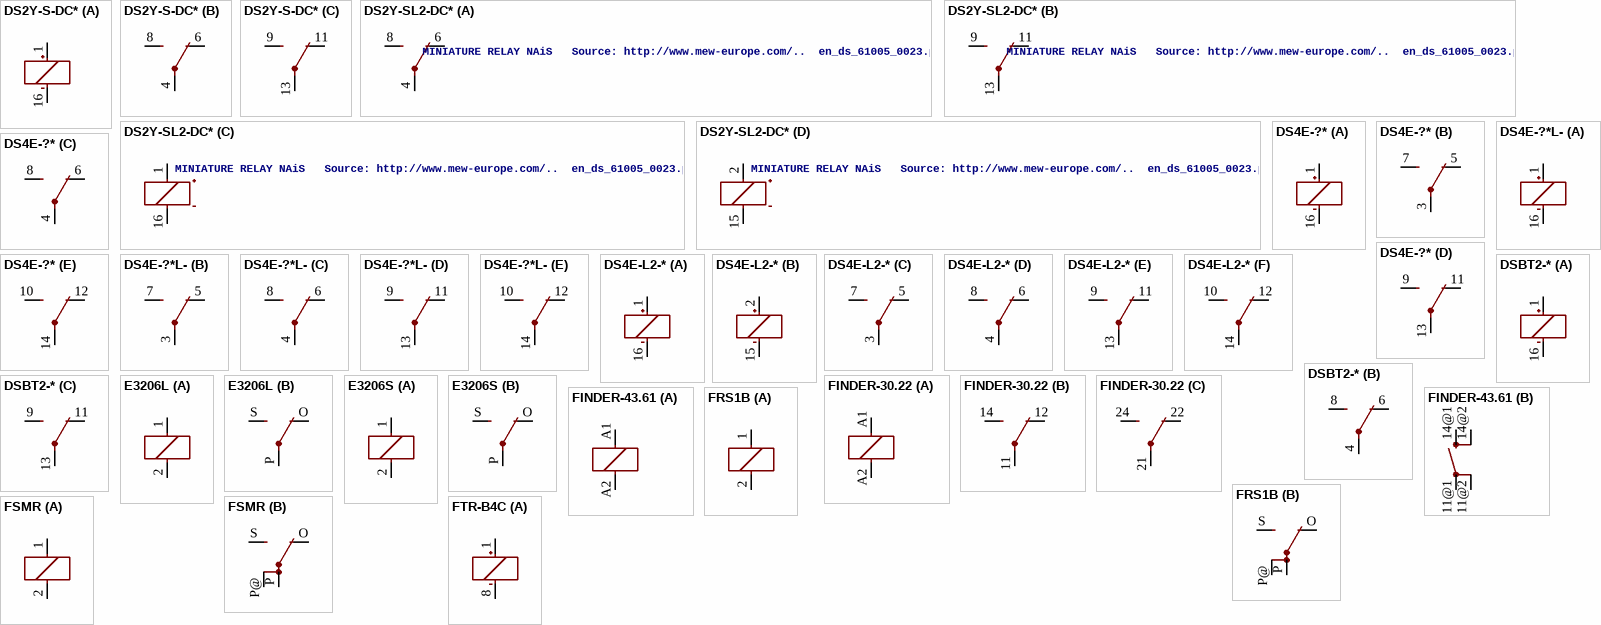
[diagram p5: symbols DS2Y-S-DC* to FTR-B4C]

## DS2Y-S-DC*
designator K?, comment MINIATURE RELAY NAiS   Source: http://www.mew-europe.com/..  en_ds_61005_0023.pdf  (value not drawn)
MPN: DS2Y-S-DC1.5V; MPN: DS2Y-S-DC12V; MPN: DS2Y-S-DC24V; MPN: DS2Y-S-DC3V; MPN: DS2Y-S-DC48V; MPN: DS2Y-S-DC5V; MPN: DS2Y-S-DC6V; MPN: DS2Y-S-DC9V; OC_FARNELL: unknown; OC_NEWARK: 10C5827; OC_NEWARK: 13P3261; OC_NEWARK: 13P3264; OC_NEWARK: 10C5832; OC_NEWARK: 13P3267; OC_NEWARK: 13P3268; OC_NEWARK: 13P3271; OC_NEWARK: 13P3272
footprint DS2Y
part A pins: 1 +, 16 -
part B pins: 4 P, 6 O, 8 S
part C pins: 9 S, 11 O, 13 P

## DS2Y-SL2-DC*
designator K?, comment MINIATURE RELAY NAiS   Source: http://www.mew-europe.com/..  en_ds_61005_0023.pdf
MPN: DS2Y-SL2-DC1.5V; MPN: DS2Y-SL2-DC12V; MPN: DS2Y-SL2-DC24V; MPN: DS2Y-SL2-DC3V; MPN: DS2Y-SL2-DC48V; MPN: DS2Y-SL2-DC5V; MPN: DS2Y-SL2-DC6V; MPN: DS2Y-SL2-DC9V; MF: AROMAT/ MATSUSHITA; OC_FARNELL: unknown; OC_NEWARK: 10C5841; OC_NEWARK: 52F9208; OC_FARNELL: 1372981; OC_NEWARK: 64K3125; OC_NEWARK: 91B6712; OC_NEWARK: 10C5844; OC_NEWARK: 93F4484; OC_NEWARK: 99F8886; OC_NEWARK: 10C5848
footprint DS2Y-2
part A pins: 4 P, 6 O, 8 S
part B pins: 9 S, 11 O, 13 P
part C pins: 1 +, 16 -
part D pins: 2 +, 15 -

## DS4E-?*
designator K?, comment DS-RELAYS HIGHLY SENSITIVE 1500 V FCC SURGE NAiS    WITHSTANDING MINIATURE RELAY Source: http://www.mew-europe.com/..  en_ds_61005_0001.pdf  (value not drawn)
OC_FARNELL: unknown; OC_NEWARK: unknown
footprint DS4E
part A pins: 1 +, 16 -
part B pins: 3 P, 5 O, 7 S
part C pins: 4 P, 6 O, 8 S
part D pins: 9 S, 11 O, 13 P
part E pins: 10 S, 12 O, 14 P

## DS4E-?*L-
designator K?, comment DS-RELAYS HIGHLY SENSITIVE 1500 V FCC SURGE NAiS    WITHSTANDING MINIATURE RELAY Source: http://www.mew-europe.com/..  en_ds_61005_0001.pdf  (value not drawn)
OC_FARNELL: unknown; OC_NEWARK: unknown
footprint DS4E
part A pins: 1 +, 16 -
part B pins: 3 P, 5 O, 7 S
part C pins: 4 P, 6 O, 8 S
part D pins: 9 S, 11 O, 13 P
part E pins: 10 S, 12 O, 14 P

## DS4E-L2-*
designator K?, comment DS-RELAYS HIGHLY SENSITIVE 1500 V FCC SURGE NAiS    WITHSTANDING MINIATURE RELAY Source: http://www.mew-europe.com/..  en_ds_61005_0001.pdf  (value not drawn)
OC_FARNELL: unknown; OC_NEWARK: unknown
footprint DS4E-L
part A pins: 1 +, 16 -
part B pins: 2 +, 15 -
part C pins: 3 P, 5 O, 7 S
part D pins: 4 P, 6 O, 8 S
part E pins: 9 S, 11 O, 13 P
part F pins: 10 S, 12 O, 14 P

## DSBT2-*
designator K?, comment DS-BT RELAYS 4,000 V BREAKDOWN VOLTAGE NAiS   Source: http://www.mew-europe.com/..  en_ds_61005_0010.pdf  (value not drawn)
MPN: DSBT2-S-DC3V; OC_FARNELL: unknown; OC_NEWARK: unknown; OC_NEWARK: 11N4489
footprint DS-BT
part A pins: 1 +, 16 -
part B pins: 4 P, 6 O, 8 S
part C pins: 9 S, 11 O, 13 P

## E3206L
designator K?, comment RELAY   1 x switch, Eichhoff/distributor Schukat  (value not drawn)
OC_FARNELL: unknown; OC_NEWARK: unknown
footprint E3206L
part A pins: 1, 2
part B pins: O, P, S

## E3206S
designator K?, comment RELAY   1 x switch, Eichhoff/distributor Schukat  (value not drawn)
OC_FARNELL: unknown; OC_NEWARK: unknown
footprint E3206S
part A pins: 1, 2
part B pins: O, P, S

## FINDER-30.22
designator K?, comment SUBMINIATURE DIL-RELAIS FINDER 30.22.9.024.0000   Kontakt max. AC - 125V Distributor: Farnell Bestell Nr.: 1217371 Source: http://www.farnell.com/datasheets/87634.pdf  (value not drawn)
OC_FARNELL: unknown; OC_NEWARK: unknown
footprint FINDER-30.22
part A pins: A1 1, A2 2
part B pins: 11 P, 12 O, 14 S
part C pins: 21 P, 22 O, 24 S

## FINDER-43.61
designator K?, comment Low profile PCB relays 10 - 16 A FINDER 43 Series   Kontakt max. AC- 250V,  Strom - Kontakt  AC- max. 10A 5 mm contact pin pitch,  1 Pole NO, 16 A, PCB mount Distributor: FARNELL Source: http://www.farnell.com/datasheets/87682.pdf  (value not drawn)
OC_FARNELL: unknown; OC_NEWARK: unknown
footprint FINDER-43.61
part A pins: A1 1, A2 2
part B pins: 11@1 PA, 11@2 PB, 14@1 SA, 14@2 SB

## FRS1B
designator K?, comment RELAY   1 x switch, same as V23101-D6-A201, Siemens  (value not drawn)
OC_FARNELL: unknown; OC_NEWARK: unknown
footprint FRS1B
part A pins: 1, 2
part B pins: O, P, P@ P@1, S

## FSMR
designator K?, comment RELAY   1 x switch, same as FBR21D/H, Fujitsu  (value not drawn)
OC_FARNELL: unknown; OC_NEWARK: unknown
footprint FSMR
part A pins: 1, 2
part B pins: O, P, P@ P@1, S

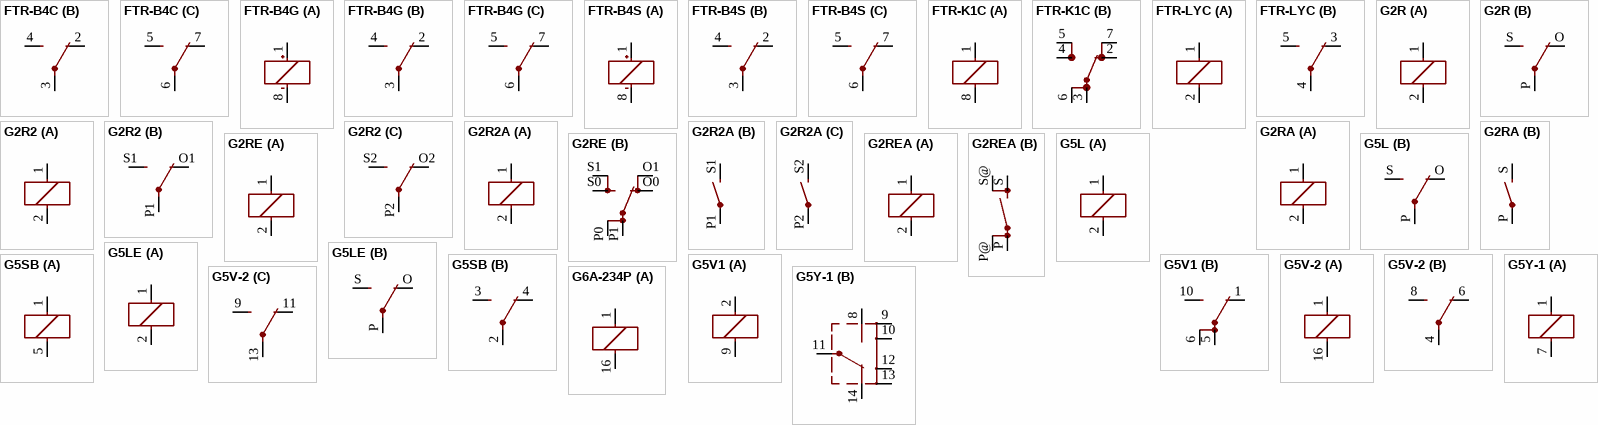
[diagram p6: symbols FTR-B4C to G6A-234P]

## FTR-B4C
designator K?, comment ULTRA MINIATURE RELAY 2 POLES - 2 A (Slim Profile Signal Relay)   FUJITSU FTR-B4 SERIES Source: FTR-B4.pdf  (value not drawn)
footprint FTR-B4C
part A pins: 1 +, 8 -
part B pins: 2 O, 3 P, 4 S
part C pins: 5 S, 6 P, 7 O

## FTR-B4G
designator K?, comment ULTRA MINIATURE RELAY 2 POLES - 2 A (Slim Profile Signal Relay)   FUJITSU FTR-B4 SERIES Source: FTR-B4.pdf  (value not drawn)
footprint FTR-B4G
part A pins: 1 +, 8 -
part B pins: 2 O, 3 P, 4 S
part C pins: 5 S, 6 P, 7 O

## FTR-B4S
designator K?, comment ULTRA MINIATURE RELAY 2 POLES - 2 A (Slim Profile Signal Relay)   FUJITSU FTR-B4 SERIES Source: FTR-B4.pdf  (value not drawn)
footprint FTR-B4S
part A pins: 1 +, 8 -
part B pins: 2 O, 3 P, 4 S
part C pins: 5 S, 6 P, 7 O

## FTR-K1C
designator K?, comment NETZRELAIS FTR-K1CK024W1XUM 16A/250VAC 1 Umschaltkontakt   Distributor: Conrad Electronic Bestell Nr.: 504389-13 - 24V Source: http://www.produktinfo.conrad.com/datenblaetter/500000-524999/504384-da-01-de-NETZRELAIS_FTR_K1CK012W1XUM_16A_250VAC.pdf  (value not drawn)
OC_FARNELL: unknown; OC_NEWARK: unknown
footprint FTR-K1C
part A pins: 1, 8 2
part B pins: 2 OA, 3 PA, 4 SA, 5 SB, 6 PB, 7 OB

## FTR-LYC
designator K?, comment Schmales Netzrelais   NETZRELAIS FTR-LYCA024V 1XUM 6A/250VAC Distributor: Conrad electronic Bestell Nr.: 504382 - 62  Source: http://www2.produktinfo.conrad.com/datenblaetter/500000-524999/504382-da-01-de-NETZRELAIS_FTR-LYCA024V_1XUM_6A_250VAC.pdf  (value not drawn)
OC_FARNELL: unknown; OC_NEWARK: unknown
footprint FTR-LYC
part A pins: 1, 2
part B pins: 3 O, 4 P, 5 S

## G2R
designator K?, comment RELAY   1 x switch, Omron  (value not drawn)
OC_FARNELL: 1569185; OC_NEWARK: unknown
footprint G2R
part A pins: 1, 2
part B pins: O, P, S

## G2R2
designator K?, comment RELAY   2 x switch, Omron  (value not drawn)
MPN: G2R-2-DC6; MF: OMRON COMPONENTS USA; OC_FARNELL: unknown; OC_NEWARK: 89C5317
footprint G2R2
part A pins: 1, 2
part B pins: O1 O, P1 P, S1 S
part C pins: O2 O, P2 P, S2 S

## G2R2A
designator K?, comment RELAY   2 x norm. open, Omron  (value not drawn)
MPN: G2R-2A-DC24; OC_FARNELL: 6985269; OC_NEWARK: 36M5257
footprint G2R2A
part A pins: 1, 2
part B pins: P1 P, S1 S
part C pins: P2 P, S2 S

## G2RA
designator K?, comment RELAY   1 x norm. open, Omron  (value not drawn)
OC_FARNELL: unknown; OC_NEWARK: unknown
footprint G2RA
part A pins: 1, 2
part B pins: P, S

## G2RE
designator K?, comment RELAY   1 x switch, high current, Omron  (value not drawn)
OC_FARNELL: unknown; OC_NEWARK: unknown
footprint G2RE
part A pins: 1, 2
part B pins: O0 O, O1 O@1, P0 P@1, P1 P, S0 S, S1 S@1

## G2REA
designator K?, comment RELAY   1 x norm. open, high current, Omron  (value not drawn)
OC_FARNELL: unknown; OC_NEWARK: unknown
footprint G2REA
part A pins: 1, 2
part B pins: P, P@ P@1, S, S@ S@1

## G5L
designator K?, comment RELAY   1 x switch, 10 A/120 V AC, 8 A/30 V ADC, Omron  (value not drawn)
OC_FARNELL: unknown; OC_NEWARK: unknown
footprint G5LE
part A pins: 1, 2
part B pins: O, P, S

## G5LE
designator K?, comment RELAY   1 x switch, 10 A/120 V AC, 8 A/30 V DC, Omron  (value not drawn)
OC_FARNELL: unknown; OC_NEWARK: unknown
footprint G5LE
part A pins: 1, 2
part B pins: O, P, S

## G5SB
designator K?, comment Compact Single-pole Relay for Switching 5 A   Source: http://www.omron.com/ecb/products/pry/121/g5sb.html  (value not drawn)
OC_FARNELL: unknown; OC_NEWARK: unknown
footprint G5SB
part A pins: 1, 5 2
part B pins: 2 P, 3 S, 4 O

## G5V1
designator K?, comment RELAY   1 x switch, 0.5 A/125 V AC, 1 A/24 V DC , Omron  (value not drawn)
MPN: G5V-1-DC24; OC_FARNELL: 9949593; OC_NEWARK: 36M6377
footprint G5V1
part A pins: 2 1, 9 2
part B pins: 1 O, 5 P, 6 P@1, 10 S

## G5V-2
designator K?, comment OMRON PCB Relay   Source: http://www.omron.com/ecb/products/pdf/en-g5v2.pdf  (value not drawn)
MPN: G5V-2 5DC; OC_FARNELL: 9949488; OC_NEWARK: 78K5703
footprint G5V-2
part A pins: 1, 16 2
part B pins: 4 P, 6 O, 8 S
part C pins: 9 S, 11 O, 13 P

## G5Y-1
designator K?, comment RELAY   RF Relay up to 900 MHz, 1 x switch, 10 W, Omron  (value not drawn)
OC_FARNELL: unknown; OC_NEWARK: unknown
footprint G5Y-1
part A pins: 1, 7 2
part B pins: 8 S, 9 ES@1, 10 ES@2, 11 P, 12 ES@3, 13 ES@4, 14 O

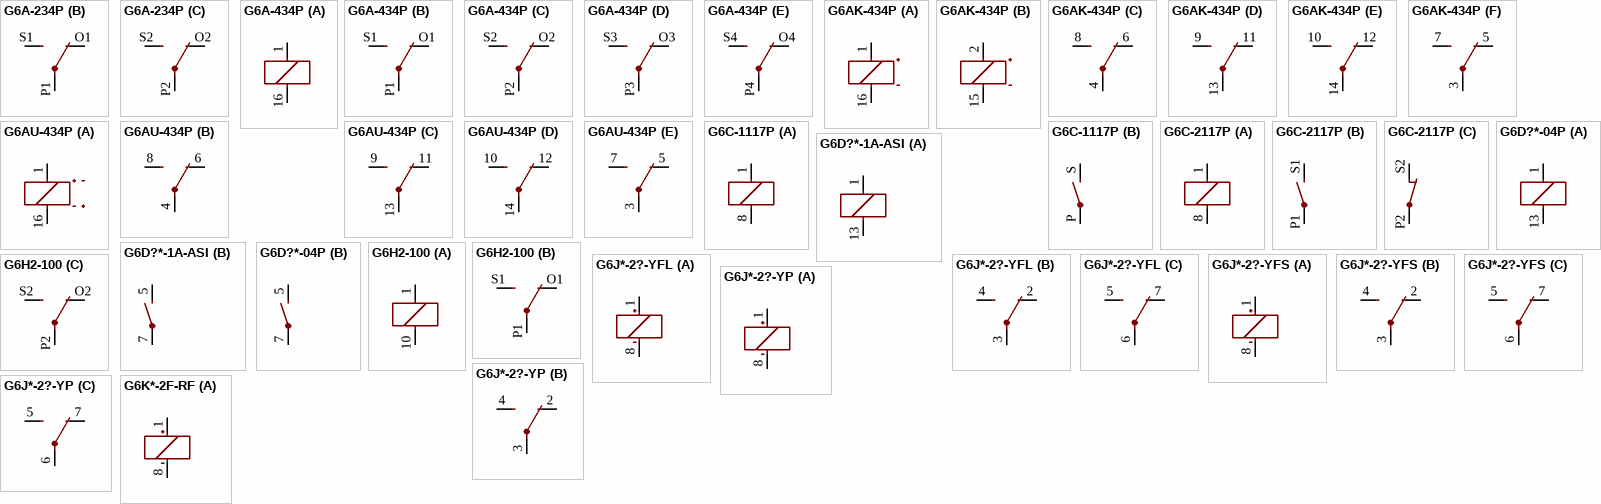
[diagram p7: symbols G6A-234P to G6K*-2F-RF]

## G6A-234P
designator K?, comment RELAY   2 x switch, 0.3 A/125 V AC, 1 A/30 V DC, Omron  (value not drawn)
OC_FARNELL: unknown; OC_NEWARK: unknown
footprint G6A-234P
part A pins: 1, 16 2
part B pins: O1 O, P1 P, S1 S
part C pins: O2 O, P2 P, S2 S

## G6A-434P
designator K?, comment RELAY   4 x switch, 0.3 A/125 V AC, 1 A/30 V DC, Omron  (value not drawn)
OC_FARNELL: unknown; OC_NEWARK: unknown
footprint G6A-434P
part A pins: 1, 16 2
part B pins: O1 O, P1 P, S1 S
part C pins: O2 O, P2 P, S2 S
part D pins: O3 O, P3 P, S3 S
part E pins: O4 O, P4 P, S4 S

## G6AK-434P
designator K?, comment RELAY   4 x switch, dual coil latching, 0.3 A/125 V AC, 1 A/30 V DC, Omron  (value not drawn)
OC_FARNELL: unknown; OC_NEWARK: unknown
footprint G6AK-434P
part A pins: 1 +, 16 -
part B pins: 2 +, 15 -
part C pins: 4 P, 6 O, 8 S
part D pins: 9 S, 11 O, 13 P
part E pins: 10 S, 12 O, 14 P
part F pins: 3 P, 5 O, 7 S

## G6AU-434P
designator K?, comment RELAY   4 x switch, single coil latching, 0.3 A/125 V AC, 1 A/30 V DC, Omron  (value not drawn)
OC_FARNELL: unknown; OC_NEWARK: unknown
footprint G6AU-434P
part A pins: 1 +, 16 -
part B pins: 4 P, 6 O, 8 S
part C pins: 9 S, 11 O, 13 P
part D pins: 10 S, 12 O, 14 P
part E pins: 3 P, 5 O, 7 S

## G6C-1117P
designator K?, comment RELAY   1 x norm. open, 10 A/240 V, Omron  (value not drawn)
OC_FARNELL: unknown; OC_NEWARK: unknown
footprint G6C-1117P
part A pins: 1, 8 2
part B pins: P, S

## G6C-2117P
designator K?, comment RELAY   1 x norm. open, 1x norm. closed, 10 A/240 V, Omron  (value not drawn)
OC_FARNELL: unknown; OC_NEWARK: unknown
footprint G6C-2117P
part A pins: 1, 8 2
part B pins: P1 P, S1 S
part C pins: P2 P, S2 O

## G6D?*-1A-ASI
designator K?, comment OMRON Slim, Miniature PCB Relay 17.5 Ã— 6.5 Ã— 12.5 mm   with Socked Source: http://ecb.omron.com.sg/pdf/relay/power/G6D.pdf  (value not drawn)
OC_FARNELL: unknown; OC_NEWARK: unknown; OC_FARNELL: 9812660
footprint G6D
part A pins: 1, 13 2
part B pins: 5 S, 7 P

## G6D?*-04P
designator K?, comment OMRON Slim, Miniature PCB Relay 17.5 Ã— 6.5 Ã— 12.5 mm   with Socked Source: http://ecb.omron.com.sg/pdf/relay/power/G6D.pdf  (value not drawn)
OC_FARNELL: unknown; OC_NEWARK: unknown
footprint G6D-SOCKET
part A pins: 1, 13 2
part B pins: 5 S, 7 P

## G6H2-100
designator K?, comment RELAY   2 x switch, 0.5 A/125 V AC, 1 A/30 V DC, Omron  (value not drawn)
OC_FARNELL: unknown; OC_NEWARK: unknown
footprint G6H2-100
part A pins: 1, 10 2
part B pins: O1 O, P1 P, S1 S
part C pins: O2 O, P2 P, S2 S

## G6J*-2?-YFL
designator K?, comment Surface-Mounting Signal Relay - G6J-Y 5.7 x 10.6 x 9 mm   Source: http://www.omroncomponents.eu/ .. K125-E2-02-X.pdf  (value not drawn)
MPN: G6J-2FL-Y-TR DC4.5; MPN: G6JU-2FL-Y DC3; OC_FARNELL: 1798618; OC_NEWARK: 04M9907; OC_FARNELL: unknown; OC_NEWARK: 04M9916
footprint G6J-2FL-Y
part A pins: 1 +, 8 -
part B pins: 2 O, 3 P, 4 S
part C pins: 5 S, 6 P, 7 O

## G6J*-2?-YFS
designator K?, comment Surface-Mounting Signal Relay - G6J-Y 5.7 x 10.6 x 9 mm   Source: http://www.omroncomponents.eu/ .. K125-E2-02-X.pdf  (value not drawn)
MPN: G6J-2FS-Y DC4.5; OC_FARNELL: unknown; OC_NEWARK: 04M9910; OC_NEWARK: unknown
footprint G6J-2FS-Y
part A pins: 1 +, 8 -
part B pins: 2 O, 3 P, 4 S
part C pins: 5 S, 6 P, 7 O

## G6J*-2?-YP
designator K?, comment Surface-Mounting Signal Relay - G6J-Y 5.7 x 10.6 x 9 mm   Source: http://www.omroncomponents.eu/ .. K125-E2-02-X.pdf  (value not drawn)
MPN: G6J-2P-Y-DC12; MPN: G6JU-2P-Y-DC12; MF: OMRON COMPONENTS USA; OC_FARNELL: unknown; OC_NEWARK: 70J9830; OC_NEWARK: 70J9842
footprint G6J-2P-Y
part A pins: 1 +, 8 -
part B pins: 2 O, 3 P, 4 S
part C pins: 5 S, 6 P, 7 O

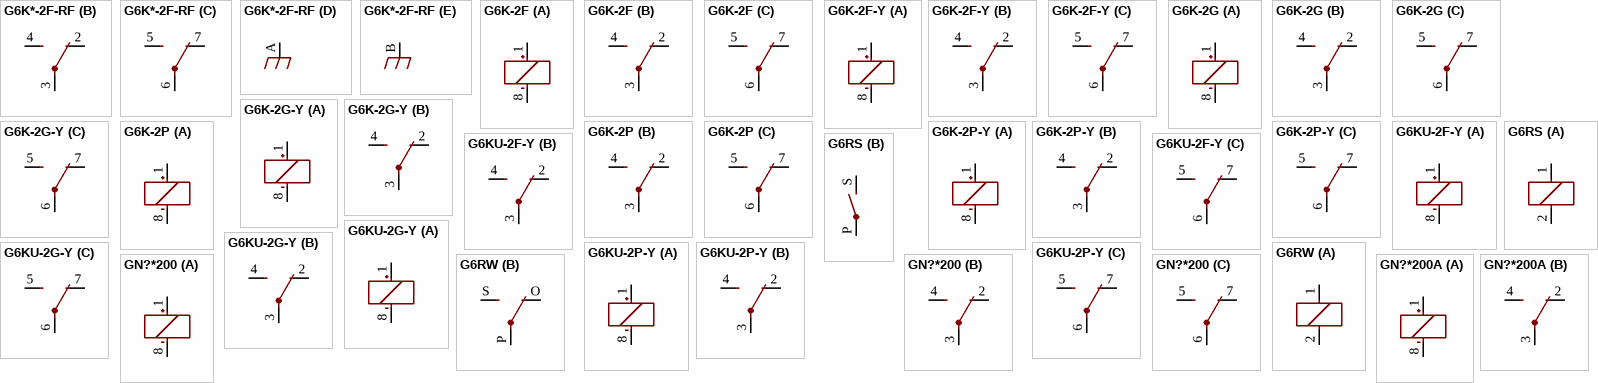
[diagram p8: symbols G6K*-2F-RF to GN?*200A]

## G6K*-2F-RF
designator K?, comment OMRON High Frequency Relay G6K-RF   Compact High Frequency Relays with 2 Form C (DPDT) Contacts Handles 1 A, 30 VDC discrete load and 1 W at 1 GHz high frequency load D20G6KRF0602.pdf  (value not drawn)
MPN: G6K-2F-RF-DC12; MF: OMRON COMPONENTS USA; OC_FARNELL: 1448181; OC_NEWARK: 73C8948; OC_FARNELL: unknown; OC_NEWARK: unknown
footprint G6K-RF
part A pins: 1 +, 8 -
part B pins: 2 O, 3 P, 4 S
part C pins: 5 S, 6 P, 7 O
part D pins: A SH
part E pins: B SH

## G6K-2F
designator K?, comment Low Signal Relay   oeiwcsnts1.omron.com/.. D20G6K0100.pdf  (value not drawn)
MPN: G6K-2F DC24; MF: OMRON COMPONENTS USA; OC_FARNELL: 1690427; OC_NEWARK: 36K7467
footprint G6K-2F
part A pins: 1 +, 8 -
part B pins: 2 O, 3 P, 4 S
part C pins: 5 S, 6 P, 7 O

## G6K-2F-Y
designator K?, comment Low Signal Relay   oeiwcsnts1.omron.com/.. D20G6K0100.pdf  (value not drawn)
MPN: G6K-2F-Y DC3; MF: OMRON COMPONENTS USA; OC_FARNELL: 1690316; OC_NEWARK: 89C6451
footprint G6K-2F-Y
part A pins: 1 +, 8 -
part B pins: 2 O, 3 P, 4 S
part C pins: 5 S, 6 P, 7 O

## G6K-2G
designator K?, comment Low Signal Relay   oeiwcsnts1.omron.com/.. D20G6K0100.pdf  (value not drawn)
MPN: G6K-2G DC12; MF: OMRON COMPONENTS USA; OC_FARNELL: 4601695; OC_NEWARK: 93B9118
footprint G6K-2G
part A pins: 1 +, 8 -
part B pins: 2 O, 3 P, 4 S
part C pins: 5 S, 6 P, 7 O

## G6K-2G-Y
designator K?, comment Low Signal Relay   oeiwcsnts1.omron.com/.. D20G6K0100.pdf  (value not drawn)
OC_FARNELL: 4484794; OC_NEWARK: unknown
footprint G6K-2G-Y
part A pins: 1 +, 8 -
part B pins: 2 O, 3 P, 4 S
part C pins: 5 S, 6 P, 7 O

## G6K-2P
designator K?, comment Low Signal Relay   oeiwcsnts1.omron.com/.. D20G6K0100.pdf  (value not drawn)
MPN: G6K-2P DC3; MF: OMRON COMPONENTS USA; OC_FARNELL: 3937276; OC_NEWARK: 89C6482
footprint G6K-2P
part A pins: 1 +, 8 -
part B pins: 2 O, 3 P, 4 S
part C pins: 5 S, 6 P, 7 O

## G6K-2P-Y
designator K?, comment Low Signal Relay   oeiwcsnts1.omron.com/.. D20G6K0100.pdf  (value not drawn)
MPN: G6K-2P-Y DC12; MF: OMRON COMPONENTS USA; OC_FARNELL: 3937276; OC_NEWARK: 34C3464
footprint G6K-2P-Y
part A pins: 1 +, 8 -
part B pins: 2 O, 3 P, 4 S
part C pins: 5 S, 6 P, 7 O

## G6KU-2F-Y
designator K?, comment Low Signal Relay   oeiwcsnts1.omron.com/.. D20G6K0100.pdf  (value not drawn)
MPN: G6KU-2F-Y DC3; MF: OMRON COMPONENTS USA; OC_FARNELL: unknown; OC_NEWARK: 89C6496
footprint G6KU-2F-Y
part A pins: 1 +, 8 -
part B pins: 2 O, 3 P, 4 S
part C pins: 5 S, 6 P, 7 O

## G6KU-2G-Y
designator K?, comment Low Signal Relay   oeiwcsnts1.omron.com/.. D20G6K0100.pdf  (value not drawn)
MPN: G6KU-2G-Y DC5; MF: OMRON COMPONENTS USA; OC_FARNELL: 1690320; OC_NEWARK: 89C6505
footprint G6KU-2G-Y
part A pins: 1 +, 8 -
part B pins: 2 O, 3 P, 4 S
part C pins: 5 S, 6 P, 7 O

## G6KU-2P-Y
designator K?, comment Low Signal Relay   oeiwcsnts1.omron.com/.. D20G6K0100.pdf  (value not drawn)
MPN: G6KU-2P-Y DC5; MF: OMRON COMPONENTS USA; OC_FARNELL: unknown; OC_NEWARK: 35K4536
footprint G6KU-2P-Y
part A pins: 1 +, 8 -
part B pins: 2 O, 3 P, 4 S
part C pins: 5 S, 6 P, 7 O

## G6RS
designator K?, comment RELAY   1 x norm. open, Omron  (value not drawn)
OC_FARNELL: unknown; OC_NEWARK: unknown
footprint G6RS
part A pins: 1, 2
part B pins: P, S

## G6RW
designator K?, comment RELAY   1 x switch, Omron  (value not drawn)
OC_FARNELL: unknown; OC_NEWARK: unknown
footprint G6RW
part A pins: 1, 2
part B pins: O, P, S

## GN?*200
designator K?, comment ULTRA-SMALL PACKAGE SLIM POLARIZED RELAY NAiS   Source: http://www.mew-europe.com/..  en_ds_61007_0000.pdf  (value not drawn)
MPN: AGN20003; MPN: AGN20006; MPN: AGN20009; MPN: AGN20012; MPN: AGN2001H; MPN: AGN20024; MPN: AGN2004H; MF: AROMAT/ MATSUSHITA; OC_FARNELL: unknown; OC_NEWARK: 13P0830; OC_NEWARK: 13P0831; OC_NEWARK: 10C3280; OC_FARNELL: 3104783; OC_NEWARK: 13P0832; OC_NEWARK: 10C3281; OC_FARNELL: 4364211; OC_NEWARK: 13P0833; OC_FARNELL: 3104771; OC_NEWARK: 13P0834
footprint GN
part A pins: 1 +, 8 -
part B pins: 2 O, 3 P, 4 S
part C pins: 5 S, 6 P, 7 O

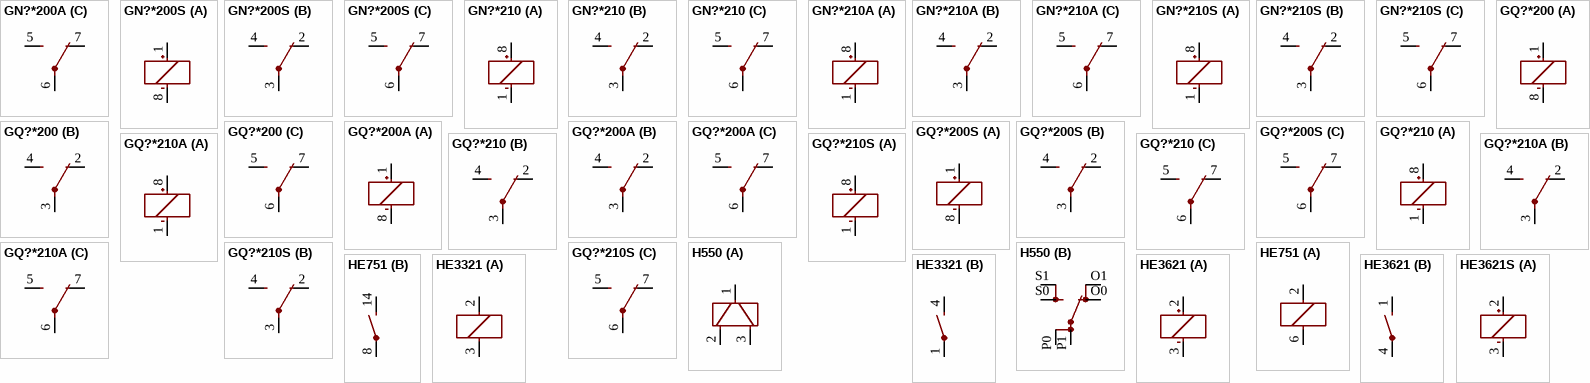
[diagram p9: symbols GN?*200A to HE3621S]

## GN?*200A
designator K?, comment ULTRA-SMALL PACKAGE SLIM POLARIZED RELAY NAiS   Source: http://www.mew-europe.com/..  en_ds_61007_0000.pdf  (value not drawn)
MPN: AGN200A03; MPN: AGN200A06; MPN: AGN200A09Z; MPN: AGN200A12; MPN: AGN200A24; MPN: AGN200A4H; OC_FARNELL: unknown; OC_NEWARK: 13P0812; OC_NEWARK: 13P0814; OC_NEWARK: 13P0815; OC_FARNELL: 3104801; OC_NEWARK: 13P0816; OC_NEWARK: unknown; OC_NEWARK: 13P0818; OC_FARNELL: 3104795; OC_NEWARK: 13P0820
footprint GN-A
part A pins: 1 +, 8 -
part B pins: 2 O, 3 P, 4 S
part C pins: 5 S, 6 P, 7 O

## GN?*200S
designator K?, comment ULTRA-SMALL PACKAGE SLIM POLARIZED RELAY NAiS   Source: http://www.mew-europe.com/..  en_ds_61007_0000.pdf  (value not drawn)
MPN: AGN200S03; MPN: AGN200S12; MPN: AGN200S24; MPN: AGN200S4H; OC_FARNELL: unknown; OC_NEWARK: 13P0822; OC_NEWARK: unknown; OC_FARNELL: 1448335; OC_NEWARK: 13P0824; OC_NEWARK: 13P0826; OC_NEWARK: 13P0828
footprint GN-S
part A pins: 1 +, 8 -
part B pins: 2 O, 3 P, 4 S
part C pins: 5 S, 6 P, 7 O

## GN?*210
designator K?, comment ULTRA-SMALL PACKAGE SLIM POLARIZED RELAY NAiS   Source: http://www.mew-europe.com/..  en_ds_61007_0000.pdf  (value not drawn)
MPN: AGN21003; MPN: AGN21006; MPN: AGN21012; MPN: AGN2104H; OC_FARNELL: unknown; OC_NEWARK: 15P8576; OC_NEWARK: 15P8577; OC_NEWARK: unknown; OC_NEWARK: 15P8578; OC_NEWARK: 15P8579
footprint GN
part A pins: 1 -, 8 +
part B pins: 2 O, 3 P, 4 S
part C pins: 5 S, 6 P, 7 O

## GN?*210A
designator K?, comment ULTRA-SMALL PACKAGE SLIM POLARIZED RELAY NAiS   Source: http://www.mew-europe.com/..  en_ds_61007_0000.pdf  (value not drawn)
MPN: AGN210A03; MPN: AGN210A12; MPN: AGN210A4H; MF: AROMAT/ MATSUSHITA; OC_FARNELL: unknown; OC_NEWARK: 15P8571; OC_NEWARK: unknown; OC_NEWARK: 10C3303; OC_NEWARK: 15P8573
footprint GN-A
part A pins: 1 -, 8 +
part B pins: 2 O, 3 P, 4 S
part C pins: 5 S, 6 P, 7 O

## GN?*210S
designator K?, comment ULTRA-SMALL PACKAGE SLIM POLARIZED RELAY NAiS   Source: http://www.mew-europe.com/..  en_ds_61007_0000.pdf  (value not drawn)
MPN: AGN210S03; MPN: AGN210S12; MF: AROMAT/ MATSUSHITA; OC_FARNELL: unknown; OC_NEWARK: 15P8575; OC_NEWARK: unknown; OC_NEWARK: 10C3320
footprint GN-S
part A pins: 1 -, 8 +
part B pins: 2 O, 3 P, 4 S
part C pins: 5 S, 6 P, 7 O

## GQ?*200
designator K?, comment ULTRA-SMALL PACKAGE FLAT POLARIZED RELAY NAiS   Source: http://www.mew-europe.com/..  en_ds_61008_0000.pdf  (value not drawn)
MPN: AGQ20003; MPN: AGQ20006; MPN: AGQ20009; MPN: AGQ20012; MPN: AGQ20024; MPN: AGQ2004H; MF: AROMAT/ MATSUSHITA; OC_FARNELL: unknown; OC_NEWARK: 13P0847; OC_NEWARK: 10C3360; OC_NEWARK: 10C3361; OC_FARNELL: 3104825; OC_NEWARK: 13P0849; OC_NEWARK: unknown; OC_NEWARK: 13P0850; OC_FARNELL: 3104813; OC_NEWARK: 13P0851
footprint GQ
part A pins: 1 +, 8 -
part B pins: 2 O, 3 P, 4 S
part C pins: 5 S, 6 P, 7 O

## GQ?*200A
designator K?, comment ULTRA-SMALL PACKAGE FLAT POLARIZED RELAY NAiS   Source: http://www.mew-europe.com/..  en_ds_61008_0000.pdf  (value not drawn)
MPN: AGQ200A03; MPN: AGQ200A09Z; MPN: AGQ200A12; MPN: AGQ200A24; MPN: AGQ200A4H; MF: AROMAT/ MATSUSHITA; OC_FARNELL: 1448336; OC_NEWARK: 13P0835; OC_FARNELL: unknown; OC_NEWARK: unknown; OC_NEWARK: 10C3339; OC_FARNELL: 3104849; OC_NEWARK: 13P0836; OC_FARNELL: 1448337; OC_NEWARK: 13P0837; OC_FARNELL: 3104837; OC_NEWARK: 13P0838
footprint GN-A
part A pins: 1 +, 8 -
part B pins: 2 O, 3 P, 4 S
part C pins: 5 S, 6 P, 7 O

## GQ?*200S
designator K?, comment ULTRA-SMALL PACKAGE FLAT POLARIZED RELAY NAiS   Source: http://www.mew-europe.com/..  en_ds_61008_0000.pdf  (value not drawn)
MPN: AGQ200S03; MPN: AGQ200S12; MPN: AGQ200S1H; MPN: AGQ200S24; MPN: AGQ200S4H; MF: AROMAT/ MATSUSHITA; OC_FARNELL: unknown; OC_NEWARK: 10C3345; OC_NEWARK: unknown; OC_NEWARK: 10C3353; OC_NEWARK: 13P0842; OC_NEWARK: 10C3355; OC_NEWARK: 10C3357
footprint GN-S
part A pins: 1 +, 8 -
part B pins: 2 O, 3 P, 4 S
part C pins: 5 S, 6 P, 7 O

## GQ?*210
designator K?, comment ULTRA-SMALL PACKAGE FLAT POLARIZED RELAY NAiS   Source: http://www.mew-europe.com/..  en_ds_61008_0000.pdf  (value not drawn)
MPN: AGQ21003; MPN: AGQ21009; MPN: AGQ2101H; MPN: AGQ21024; MPN: AGQ2104H; MF: AROMAT/ MATSUSHITA; OC_FARNELL: unknown; OC_NEWARK: 10C3391; OC_NEWARK: unknown; OC_NEWARK: 15P8586; OC_NEWARK: 10C3394; OC_NEWARK: 10C3396; OC_NEWARK: 15P8587
footprint GQ
part A pins: 1 -, 8 +
part B pins: 2 O, 3 P, 4 S
part C pins: 5 S, 6 P, 7 O

## GQ?*210A
designator K?, comment ULTRA-SMALL PACKAGE FLAT POLARIZED RELAY NAiS   Source: http://www.mew-europe.com/..  en_ds_61008_0000.pdf  (value not drawn)
MPN: AGQ210A03; MPN: AGQ210A1H; MPN: AGQ210A4H; OC_FARNELL: unknown; OC_NEWARK: 15P8580; OC_NEWARK: unknown; OC_NEWARK: 15P8581; OC_NEWARK: 15P8582
footprint GQ-A
part A pins: 1 -, 8 +
part B pins: 2 O, 3 P, 4 S
part C pins: 5 S, 6 P, 7 O

## GQ?*210S
designator K?, comment ULTRA-SMALL PACKAGE FLAT POLARIZED RELAY NAiS   Source: http://www.mew-europe.com/..  en_ds_61008_0000.pdf  (value not drawn)
MPN: AGQ210S4H; OC_FARNELL: unknown; OC_NEWARK: unknown; OC_NEWARK: 15P8583
footprint GN-S
part A pins: 1 -, 8 +
part B pins: 2 O, 3 P, 4 S
part C pins: 5 S, 6 P, 7 O

## H550
designator K?, comment RELAY   bistable, 1 x switch, high current  (value not drawn)
OC_FARNELL: unknown; OC_NEWARK: unknown
footprint H550
part A pins: 1, 2, 3
part B pins: O0 O, O1 O@1, P0 P@1, P1 P, S0 S, S1 S@1

## HE751
designator K?, comment RELAY   reed, 1 x norm. open, Hamlin  (value not drawn)
OC_FARNELL: unknown; OC_NEWARK: unknown
footprint HE751
part A pins: 2 1, 6 2
part B pins: 8 P, 14 S

## HE3321
designator K?, comment RELAY   reed, 1 x norm. open, 7.62 mm, grid 5.08 mm, Hamlin  (value not drawn)
MPN: HE3321C1200; MF: HAMLIN; OC_FARNELL: unknown; OC_NEWARK: 46F3928
footprint HE3321
part A pins: 2 1, 3 2
part B pins: 1 P, 4 S

## HE3621
designator K?, comment RELAY   reed, 1 x norm. open, grid 5.08 mm, Hamlin  (value not drawn)
MPN: HE3621A2410; MF: HAMLIN; OC_FARNELL: 9561943; OC_NEWARK: 50F7993
footprint HE3621
part A pins: 2 +, 3 -
part B pins: 1 S, 4 P

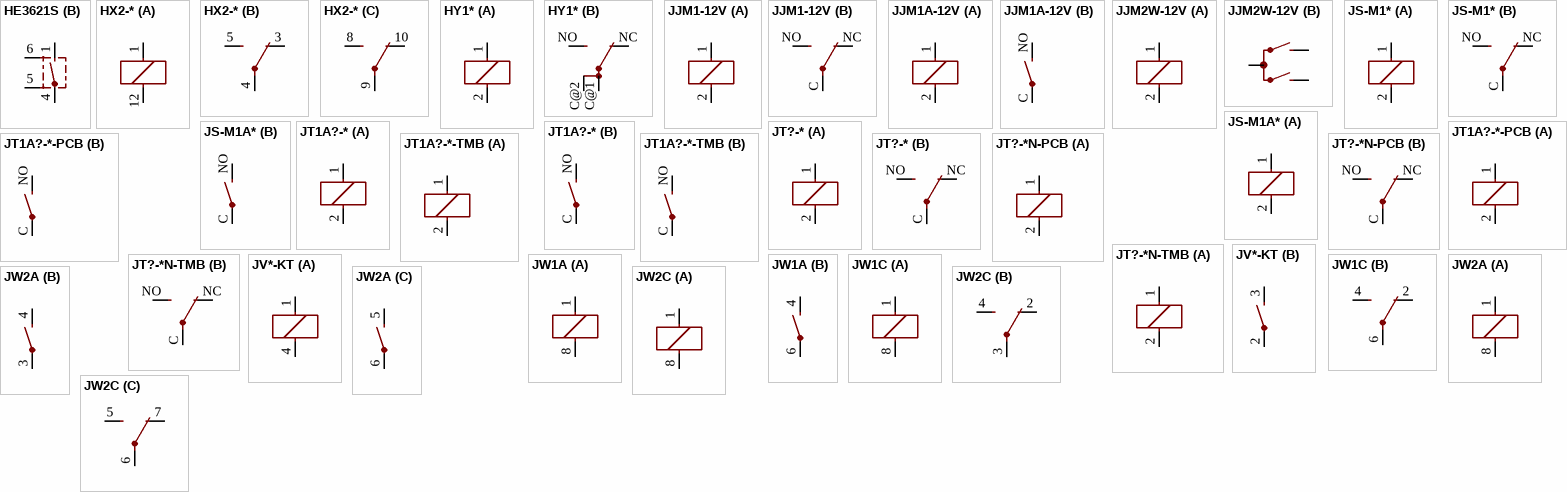
[diagram p10: symbols HE3621S to JW2C]

## HE3621S
designator K?, comment RELAY   reed, 1 x norm. open with shield, grid 5.08 mm, Hamlin  (value not drawn)
OC_FARNELL: unknown; OC_NEWARK: unknown
footprint HE3621S
part A pins: 2 +, 3 -
part B pins: 1 S, 4 P, 5 ES@1, 6 ES@2

## HX2-*
designator K?, comment Compact & Slim 2 Form C Non-polarized Relay NAiS   Source: http://www.mew-europe.com/..  en_ds_61011_0000.pdf  (value not drawn)
OC_FARNELL: unknown; OC_NEWARK: unknown
footprint HX
part A pins: 1, 12 2
part B pins: 3 O, 4 P, 5 S
part C pins: 8 S, 9 P, 10 O

## HY1*
designator K?, comment Non-polarized 1 Form C Relay NAiS   Source: http://www.mew-europe.com/..  en_ds_61012_0000.pdf  (value not drawn)
MPN: HY1-12V; MPN: HY1-24V; MPN: HY1-3V; MPN: HY1-5V; MPN: HY1-6V; MPN: HY1-9V; MPN: HY1Z-12V; MPN: HY1Z-24V; MPN: HY1Z-4.5V; MPN: HY1Z-5V; MPN: HY1Z-9V; MF: AROMAT/ MATSUSHITA; OC_FARNELL: unknown; OC_NEWARK: unknown; OC_NEWARK: 10C6688; OC_NEWARK: 10C6689; OC_NEWARK: 10C6690; OC_NEWARK: 10C6692; OC_NEWARK: 10C6693; OC_NEWARK: 10C6694; OC_NEWARK: 10C6704; OC_NEWARK: 10C6705; OC_NEWARK: 10C6707; OC_NEWARK: 52F9234; OC_NEWARK: 10C6709
footprint HY
part A pins: 1, 2
part B pins: C@1 P, C@2 P@1, NC O, NO S

## JJM1-12V
designator K?, comment HALF-SIZE AUTOMOTIVE RELAY NAiS   Source: http://www.mew-europe.com/.. en_ds_61210_0001.pdf  (value not drawn)
MPN: JJM1-12V; MF: AROMAT/ MATSUSHITA; OC_FARNELL: unknown; OC_NEWARK: 10C7318
footprint JJM1C
part A pins: 1, 2
part B pins: C P, NC O, NO S